# Altium integrated library Xilinx Kintex-7.IntLib: 108 symbols (part 16 of 39)
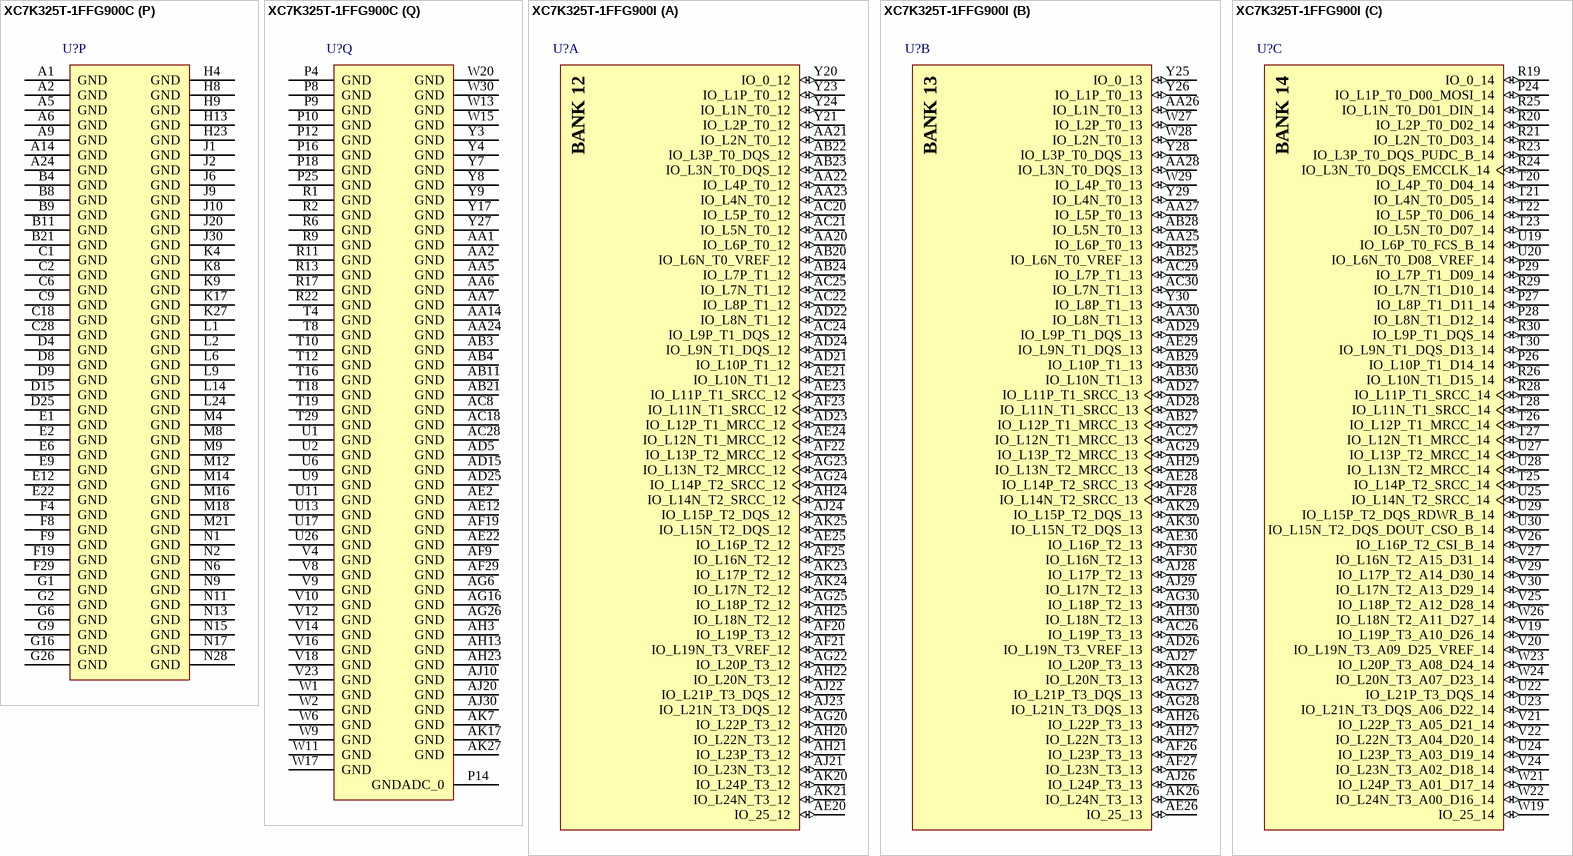
[diagram p306: symbols XC7K325T-1FFG900C to XC7K325T-1FFG900I]

## XC7K325T-1FFG900C
designator U?
Kintex-7 FPGA, 500 User I/Os, 16 GTX, 900-Ball BGA, Speed Grade 1, Commerical Grade, Pb-Free; Generic Part Number: XC7K325T; Manufacturer: Xilinx; PartNumber: XC7K325T-1FFG900C; GTX: 16; SelectIO HP: 150; SelectIO HR: 350; Speed Grade: -1; DatasheetVersion: v1.12; PackageVersion: Rev 1.1; PackageReference: FFG900; PackageDescription: Flip-Chip BGA, Body 31 x 31 mm, 1.0 mm Pitch; RoHS: Pb-Free; Mounting Technology: Surface Mount; Code_JEDEC: MS-034-AAN-1; ComponentLink1Description: Datasheet; ComponentLink1URL: http://www.xilinx.com/support/documentation/data_sheets/ds180_7Series_Overview.pdf; ComponentLink2Description: Package Specification; ComponentLink2URL: http://www.xilinx.com/support/documentation/user_guides/ug865-Zynq-7000-Pkg-Pinout.pdf
footprint FFG900 (BGA, 900-Balls, Body 31x31mm, Pitch 1mm)
part A pins: AA20 IO_L6P_T0_12 (io), AA21 IO_L2N_T0_12 (io), AA22 IO_L4P_T0_12 (io), AA23 IO_L4N_T0_12 (io), AB20 IO_L6N_T0_VREF_12 (io), AB22 IO_L3P_T0_DQS_12 (io), AB23 IO_L3N_T0_DQS_12 (io), AB24 IO_L7P_T1_12 (io), AC20 IO_L5P_T0_12 (io), AC21 IO_L5N_T0_12 (io), AC22 IO_L8P_T1_12 (io), AC24 IO_L9P_T1_DQS_12 (io), AC25 IO_L7N_T1_12 (io), AD21 IO_L10P_T1_12 (io), AD22 IO_L8N_T1_12 (io), AD23 IO_L12P_T1_MRCC_12 (io), AD24 IO_L9N_T1_DQS_12 (io), AE20 IO_25_12 (io), AE21 IO_L10N_T1_12 (io), AE23 IO_L11P_T1_SRCC_12 (io), AE24 IO_L12N_T1_MRCC_12 (io), AE25 IO_L16P_T2_12 (io), AF20 IO_L19P_T3_12 (io), AF21 IO_L19N_T3_VREF_12 (io), AF22 IO_L13P_T2_MRCC_12 (io), AF23 IO_L11N_T1_SRCC_12 (io), AF25 IO_L16N_T2_12 (io), AG20 IO_L22P_T3_12 (io), AG22 IO_L20P_T3_12 (io), AG23 IO_L13N_T2_MRCC_12 (io), AG24 IO_L14P_T2_SRCC_12 (io), AG25 IO_L18P_T2_12 (io), AH20 IO_L22N_T3_12 (io), AH21 IO_L23P_T3_12 (io), AH22 IO_L20N_T3_12 (io), AH24 IO_L14N_T2_SRCC_12 (io), AH25 IO_L18N_T2_12 (io), AJ21 IO_L23N_T3_12 (io), AJ22 IO_L21P_T3_DQS_12 (io), AJ23 IO_L21N_T3_DQS_12 (io), AJ24 IO_L15P_T2_DQS_12 (io), AK20 IO_L24P_T3_12 (io), AK21 IO_L24N_T3_12 (io), AK23 IO_L17P_T2_12 (io), AK24 IO_L17N_T2_12 (io), AK25 IO_L15N_T2_DQS_12 (io), Y20 IO_0_12 (io), Y21 IO_L2P_T0_12 (io), Y23 IO_L1P_T0_12 (io), Y24 IO_L1N_T0_12 (io)
part B pins: AA25 IO_L6P_T0_13 (io), AA26 IO_L1N_T0_13 (io), AA27 IO_L5P_T0_13 (io), AA28 IO_L3N_T0_DQS_13 (io), AA30 IO_L8N_T1_13 (io), AB25 IO_L6N_T0_VREF_13 (io), AB27 IO_L12P_T1_MRCC_13 (io), AB28 IO_L5N_T0_13 (io), AB29 IO_L10P_T1_13 (io), AB30 IO_L10N_T1_13 (io), AC26 IO_L19P_T3_13 (io), AC27 IO_L12N_T1_MRCC_13 (io), AC29 IO_L7P_T1_13 (io), AC30 IO_L7N_T1_13 (io), AD26 IO_L19N_T3_VREF_13 (io), AD27 IO_L11P_T1_SRCC_13 (io), AD28 IO_L11N_T1_SRCC_13 (io), AD29 IO_L9P_T1_DQS_13 (io), AE26 IO_25_13 (io), AE28 IO_L14P_T2_SRCC_13 (io), AE29 IO_L9N_T1_DQS_13 (io), AE30 IO_L16P_T2_13 (io), AF26 IO_L23P_T3_13 (io), AF27 IO_L23N_T3_13 (io), AF28 IO_L14N_T2_SRCC_13 (io), AF30 IO_L16N_T2_13 (io), AG27 IO_L21P_T3_DQS_13 (io), AG28 IO_L21N_T3_DQS_13 (io), AG29 IO_L13P_T2_MRCC_13 (io), AG30 IO_L18P_T2_13 (io), AH26 IO_L22P_T3_13 (io), AH27 IO_L22N_T3_13 (io), AH29 IO_L13N_T2_MRCC_13 (io), AH30 IO_L18N_T2_13 (io), AJ26 IO_L24P_T3_13 (io), AJ27 IO_L20P_T3_13 (io), AJ28 IO_L17P_T2_13 (io), AJ29 IO_L17N_T2_13 (io), AK26 IO_L24N_T3_13 (io), AK28 IO_L20N_T3_13 (io), AK29 IO_L15P_T2_DQS_13 (io), AK30 IO_L15N_T2_DQS_13 (io), W27 IO_L2P_T0_13 (io), W28 IO_L2N_T0_13 (io), W29 IO_L4P_T0_13 (io), Y25 IO_0_13 (io), Y26 IO_L1P_T0_13 (io), Y28 IO_L3P_T0_DQS_13 (io), Y29 IO_L4N_T0_13 (io), Y30 IO_L8P_T1_13 (io)
part C pins: P24 IO_L1P_T0_D00_MOSI_14 (io), P26 IO_L10P_T1_D14_14 (io), P27 IO_L8P_T1_D11_14 (io), P28 IO_L8N_T1_D12_14 (io), P29 IO_L7P_T1_D09_14 (io), R19 IO_0_14 (io), R20 IO_L2P_T0_D02_14 (io), R21 IO_L2N_T0_D03_14 (io), R23 IO_L3P_T0_DQS_PUDC_B_14 (io), R24 IO_L3N_T0_DQS_EMCCLK_14 (io), R25 IO_L1N_T0_D01_DIN_14 (io), R26 IO_L10N_T1_D15_14 (io), R28 IO_L11P_T1_SRCC_14 (io), R29 IO_L7N_T1_D10_14 (io), R30 IO_L9P_T1_DQS_14 (io), T20 IO_L4P_T0_D04_14 (io), T21 IO_L4N_T0_D05_14 (io), T22 IO_L5P_T0_D06_14 (io), T23 IO_L5N_T0_D07_14 (io), T25 IO_L14P_T2_SRCC_14 (io), T26 IO_L12P_T1_MRCC_14 (io), T27 IO_L12N_T1_MRCC_14 (io), T28 IO_L11N_T1_SRCC_14 (io), T30 IO_L9N_T1_DQS_D13_14 (io), U19 IO_L6P_T0_FCS_B_14 (io), U20 IO_L6N_T0_D08_VREF_14 (io), U22 IO_L21P_T3_DQS_14 (io), U23 IO_L21N_T3_DQS_A06_D22_14 (io), U24 IO_L23P_T3_A03_D19_14 (io), U25 IO_L14N_T2_SRCC_14 (io), U27 IO_L13P_T2_MRCC_14 (io), U28 IO_L13N_T2_MRCC_14 (io), U29 IO_L15P_T2_DQS_RDWR_B_14 (io), U30 IO_L15N_T2_DQS_DOUT_CSO_B_14 (io), V19 IO_L19P_T3_A10_D26_14 (io), V20 IO_L19N_T3_A09_D25_VREF_14 (io), V21 IO_L22P_T3_A05_D21_14 (io), V22 IO_L22N_T3_A04_D20_14 (io), V24 IO_L23N_T3_A02_D18_14 (io), V25 IO_L18P_T2_A12_D28_14 (io), V26 IO_L16P_T2_CSI_B_14 (io), V27 IO_L16N_T2_A15_D31_14 (io), V29 IO_L17P_T2_A14_D30_14 (io), V30 IO_L17N_T2_A13_D29_14 (io), W19 IO_25_14 (io), W21 IO_L24P_T3_A01_D17_14 (io), W22 IO_L24N_T3_A00_D16_14 (io), W23 IO_L20P_T3_A08_D24_14 (io), W24 IO_L20N_T3_A07_D23_14 (io), W26 IO_L18N_T2_A11_D27_14 (io)
part D pins: H29 IO_L7N_T1_AD10N_15 (io), J21 IO_L5P_T0_AD2P_15 (io), J22 IO_L5N_T0_AD2N_15 (io), J23 IO_L1P_T0_AD0P_15 (io), J24 IO_L1N_T0_AD0N_15 (io), J26 IO_L10N_T1_AD4N_15 (io), J27 IO_L8P_T1_AD3P_15 (io), J28 IO_L8N_T1_AD3N_15 (io), J29 IO_L7P_T1_AD10P_15 (io), K21 IO_L4N_T0_AD9N_15 (io), K23 IO_L3P_T0_DQS_AD1P_15 (io), K24 IO_L3N_T0_DQS_AD1N_15 (io), K25 IO_L12N_T1_MRCC_AD5N_15 (io), K26 IO_L10P_T1_AD4P_15 (io), K28 IO_L13P_T2_MRCC_15 (io), K29 IO_L13N_T2_MRCC_15 (io), K30 IO_L9N_T1_DQS_AD11N_15 (io), L20 IO_L6N_T0_VREF_15 (io), L21 IO_L4P_T0_AD9P_15 (io), L22 IO_L2P_T0_AD8P_15 (io), L23 IO_L2N_T0_AD8N_15 (io), L25 IO_L12P_T1_MRCC_AD5P_15 (io), L26 IO_L11P_T1_SRCC_AD12P_15 (io), L27 IO_L11N_T1_SRCC_AD12N_15 (io), L28 IO_L14N_T2_SRCC_15 (io), L30 IO_L9P_T1_DQS_AD11P_15 (io), M19 IO_0_15 (io), M20 IO_L6P_T0_15 (io), M22 IO_L24P_T3_RS1_15 (io), M23 IO_L24N_T3_RS0_15 (io), M24 IO_L23P_T3_FOE_B_15 (io), M25 IO_L23N_T3_FWE_B_15 (io), M27 IO_L16N_T2_A27_15 (io), M28 IO_L14P_T2_SRCC_15 (io), M29 IO_L15P_T2_DQS_15 (io), M30 IO_L15N_T2_DQS_ADV_B_15 (io), N19 IO_L19P_T3_A22_15 (io), N20 IO_L19N_T3_A21_VREF_15 (io), N21 IO_L20P_T3_A20_15 (io), N22 IO_L20N_T3_A19_15 (io), N24 IO_L21N_T3_DQS_A18_15 (io), N25 IO_L18P_T2_A24_15 (io), N26 IO_L18N_T2_A23_15 (io), N27 IO_L16P_T2_A28_15 (io), N29 IO_L17P_T2_A26_15 (io), N30 IO_L17N_T2_A25_15 (io), P19 IO_25_15 (io), P21 IO_L22P_T3_A17_15 (io), P22 IO_L22N_T3_A16_15 (io), P23 IO_L21P_T3_DQS_15 (io)
part E pins: A23 IO_L1N_T0_16 (io), A25 IO_L10P_T1_16 (io), A26 IO_L10N_T1_16 (io), A27 IO_L7N_T1_16 (io), A28 IO_L9N_T1_DQS_16 (io), A30 IO_L17N_T2_16 (io), B23 IO_L1P_T0_16 (io), B24 IO_L8N_T1_16 (io), B25 IO_L12N_T1_MRCC_16 (io), B27 IO_L7P_T1_16 (io), B28 IO_L9P_T1_DQS_16 (io), B29 IO_L15N_T2_DQS_16 (io), B30 IO_L17P_T2_16 (io), C24 IO_L8P_T1_16 (io), C25 IO_L12P_T1_MRCC_16 (io), C26 IO_L11N_T1_SRCC_16 (io), C27 IO_L13N_T2_MRCC_16 (io), C29 IO_L15P_T2_DQS_16 (io), C30 IO_L16N_T2_16 (io), D23 IO_L2N_T0_16 (io), D24 IO_L4N_T0_16 (io), D26 IO_L11P_T1_SRCC_16 (io), D27 IO_L13P_T2_MRCC_16 (io), D28 IO_L14N_T2_SRCC_16 (io), D29 IO_L16P_T2_16 (io), E23 IO_L2P_T0_16 (io), E24 IO_L4P_T0_16 (io), E25 IO_L3N_T0_DQS_16 (io), E26 IO_L5N_T0_16 (io), E28 IO_L14P_T2_SRCC_16 (io), E29 IO_L18P_T2_16 (io), E30 IO_L18N_T2_16 (io), F23 IO_0_16 (io), F25 IO_L3P_T0_DQS_16 (io), F26 IO_L5P_T0_16 (io), F27 IO_L21N_T3_DQS_16 (io), F28 IO_L20N_T3_16 (io), F30 IO_L22N_T3_16 (io), G23 IO_L6P_T0_16 (io), G24 IO_L6N_T0_VREF_16 (io), G25 IO_25_16 (io), G27 IO_L21P_T3_DQS_16 (io), G28 IO_L20P_T3_16 (io), G29 IO_L22P_T3_16 (io), G30 IO_L24N_T3_16 (io), H24 IO_L19P_T3_16 (io), H25 IO_L19N_T3_VREF_16 (io), H26 IO_L23P_T3_16 (io), H27 IO_L23N_T3_16 (io), H30 IO_L24P_T3_16 (io)
part F pins: A16 IO_L20P_T3_17 (io), A17 IO_L20N_T3_17 (io), A18 IO_L22N_T3_17 (io), A20 IO_L21P_T3_DQS_17 (io), A21 IO_L21N_T3_DQS_17 (io), A22 IO_L23N_T3_17 (io), B17 IO_L17N_T2_17 (io), B18 IO_L22P_T3_17 (io), B19 IO_L24N_T3_17 (io), B20 IO_L19N_T3_VREF_17 (io), B22 IO_L23P_T3_17 (io), C16 IO_L15N_T2_DQS_17 (io), C17 IO_L17P_T2_17 (io), C19 IO_L24P_T3_17 (io), C20 IO_L19P_T3_17 (io), C21 IO_L8N_T1_17 (io), C22 IO_L10N_T1_17 (io), D16 IO_L15P_T2_DQS_17 (io), D17 IO_L13P_T2_MRCC_17 (io), D18 IO_L13N_T2_MRCC_17 (io), D19 IO_L14N_T2_SRCC_17 (io), D21 IO_L8P_T1_17 (io), D22 IO_L10P_T1_17 (io), E18 IO_25_17 (io), E19 IO_L14P_T2_SRCC_17 (io), E20 IO_L12N_T1_MRCC_17 (io), E21 IO_L11N_T1_SRCC_17 (io), F17 IO_L18N_T2_17 (io), F18 IO_L16N_T2_17 (io), F20 IO_L12P_T1_MRCC_17 (io), F21 IO_L11P_T1_SRCC_17 (io), F22 IO_L9N_T1_DQS_17 (io), G17 IO_L18P_T2_17 (io), G18 IO_L16P_T2_17 (io), G19 IO_0_17 (io), G20 IO_L2N_T0_17 (io), G22 IO_L9P_T1_DQS_17 (io), H17 IO_L3N_T0_DQS_17 (io), H19 IO_L4N_T0_17 (io), H20 IO_L2P_T0_17 (io), H21 IO_L7P_T1_17 (io), H22 IO_L7N_T1_17 (io), J17 IO_L3P_T0_DQS_17 (io), J18 IO_L1N_T0_17 (io), J19 IO_L4P_T0_17 (io), K18 IO_L1P_T0_17 (io), K19 IO_L6P_T0_17 (io), K20 IO_L6N_T0_VREF_17 (io), L17 IO_L5P_T0_17 (io), L18 IO_L5N_T0_17 (io)
part G pins: A11 IO_L17P_T2_18 (io), A12 IO_L17N_T2_18 (io), A13 IO_L22N_T3_18 (io), A15 IO_L24N_T3_18 (io), B12 IO_L15N_T2_DQS_18 (io), B13 IO_L22P_T3_18 (io), B14 IO_L24P_T3_18 (io), B15 IO_L23N_T3_18 (io), C11 IO_L18N_T2_18 (io), C12 IO_L15P_T2_DQS_18 (io), C14 IO_L21N_T3_DQS_18 (io), C15 IO_L23P_T3_18 (io), D11 IO_L18P_T2_18 (io), D12 IO_L13P_T2_MRCC_18 (io), D13 IO_L13N_T2_MRCC_18 (io), D14 IO_L21P_T3_DQS_18 (io), E11 IO_L16N_T2_18 (io), E13 IO_L14N_T2_SRCC_18 (io), E14 IO_L20P_T3_18 (io), E15 IO_L20N_T3_18 (io), E16 IO_L19N_T3_VREF_18 (io), F11 IO_L16P_T2_18 (io), F12 IO_L14P_T2_SRCC_18 (io), F13 IO_L12N_T1_MRCC_18 (io), F15 IO_L19P_T3_18 (io), F16 IO_25_18 (io), G12 IO_0_18 (io), G13 IO_L12P_T1_MRCC_18 (io), G14 IO_L11N_T1_SRCC_18 (io), G15 IO_L7N_T1_18 (io), H11 IO_L10P_T1_18 (io), H12 IO_L10N_T1_18 (io), H14 IO_L11P_T1_SRCC_18 (io), H15 IO_L7P_T1_18 (io), H16 IO_L9N_T1_DQS_18 (io), J11 IO_L8P_T1_18 (io), J12 IO_L8N_T1_18 (io), J13 IO_L4N_T0_18 (io), J14 IO_L5N_T0_18 (io), J16 IO_L9P_T1_DQS_18 (io), K11 IO_L6N_T0_VREF_18 (io), K13 IO_L4P_T0_18 (io), K14 IO_L5P_T0_18 (io), K15 IO_L2N_T0_18 (io), K16 IO_L1N_T0_18 (io), L11 IO_L6P_T0_18 (io), L12 IO_L3P_T0_DQS_18 (io), L13 IO_L3N_T0_DQS_18 (io), L15 IO_L2P_T0_18 (io), L16 IO_L1P_T0_18 (io)
part H pins: AA15 IO_L20P_T3_32 (io), AA16 IO_L23N_T3_32 (io), AA17 IO_L23P_T3_32 (io), AA18 IO_L16P_T2_32 (io), AB14 IO_25_VRP_32 (io), AB15 IO_L20N_T3_32 (io), AB17 IO_L18P_T2_32 (io), AB18 IO_L16N_T2_32 (io), AB19 IO_L17P_T2_32 (io), AC14 IO_L22P_T3_32 (io), AC15 IO_L21N_T3_DQS_32 (io), AC16 IO_L21P_T3_DQS_32 (io), AC17 IO_L18N_T2_32 (io), AC19 IO_L17N_T2_32 (io), AD14 IO_L22N_T3_32 (io), AD16 IO_L14N_T2_SRCC_32 (io), AD17 IO_L14P_T2_SRCC_32 (io), AD18 IO_L13P_T2_MRCC_32 (io), AD19 IO_L10P_T1_32 (io), AE14 IO_L19N_T3_VREF_32 (io), AE15 IO_L19P_T3_32 (io), AE16 IO_L6P_T0_32 (io), AE18 IO_L13N_T2_MRCC_32 (io), AE19 IO_L10N_T1_32 (io), AF15 IO_L4P_T0_32 (io), AF16 IO_L6N_T0_VREF_32 (io), AF17 IO_L12P_T1_MRCC_32 (io), AF18 IO_L11P_T1_SRCC_32 (io), AG14 IO_L4N_T0_32 (io), AG15 IO_L2P_T0_32 (io), AG17 IO_L12N_T1_MRCC_32 (io), AG18 IO_L11N_T1_SRCC_32 (io), AG19 IO_L8P_T1_32 (io), AH15 IO_L2N_T0_32 (io), AH16 IO_L3P_T0_DQS_32 (io), AH17 IO_L5P_T0_32 (io), AH19 IO_L8N_T1_32 (io), AJ16 IO_L3N_T0_DQS_32 (io), AJ17 IO_L5N_T0_32 (io), AJ18 IO_L9P_T1_DQS_32 (io), AJ19 IO_L7P_T1_32 (io), AK15 IO_L1N_T0_32 (io), AK16 IO_L1P_T0_32 (io), AK18 IO_L9N_T1_DQS_32 (io), AK19 IO_L7N_T1_32 (io), Y14 IO_0_VRN_32 (io), Y15 IO_L24N_T3_32 (io), Y16 IO_L24P_T3_32 (io), Y18 IO_L15N_T2_DQS_32 (io), Y19 IO_L15P_T2_DQS_32 (io)
part I pins: AA8 IO_L2P_T0_33 (io), AA10 IO_L5N_T0_33 (io), AA11 IO_L5P_T0_33 (io), AA12 IO_L1P_T0_33 (io), AA13 IO_L6P_T0_33 (io), AB8 IO_L2N_T0_33 (io), AB9 IO_L3P_T0_DQS_33 (io), AB10 IO_L7P_T1_33 (io), AB12 IO_L1N_T0_33 (io), AB13 IO_L6N_T0_VREF_33 (io), AC9 IO_L3N_T0_DQS_33 (io), AC10 IO_L7N_T1_33 (io), AC11 IO_L9N_T1_DQS_33 (io), AC12 IO_L9P_T1_DQS_33 (io), AD8 IO_L8P_T1_33 (io), AD9 IO_L10P_T1_33 (io), AD11 IO_L12N_T1_MRCC_33 (io), AD12 IO_L12P_T1_MRCC_33 (io), AD13 IO_25_VRP_33 (io), AE8 IO_L8N_T1_33 (io), AE9 IO_L10N_T1_33 (io), AE10 IO_L14P_T2_SRCC_33 (io), AE11 IO_L11P_T1_SRCC_33 (io), AE13 IO_L19P_T3_33 (io), AF10 IO_L14N_T2_SRCC_33 (io), AF11 IO_L11N_T1_SRCC_33 (io), AF12 IO_L23P_T3_33 (io), AF13 IO_L19N_T3_VREF_33 (io), AG9 IO_L16P_T2_33 (io), AG10 IO_L13P_T2_MRCC_33 (io), AG12 IO_L23N_T3_33 (io), AG13 IO_L24P_T3_33 (io), AH9 IO_L16N_T2_33 (io), AH10 IO_L13N_T2_MRCC_33 (io), AH11 IO_L18P_T2_33 (io), AH12 IO_L24N_T3_33 (io), AH14 IO_L21P_T3_DQS_33 (io), AJ9 IO_L15P_T2_DQS_33 (io), AJ11 IO_L18N_T2_33 (io), AJ12 IO_L22N_T3_33 (io), AJ13 IO_L22P_T3_33 (io), AJ14 IO_L21N_T3_DQS_33 (io), AK9 IO_L15N_T2_DQS_33 (io), AK10 IO_L17N_T2_33 (io), AK11 IO_L17P_T2_33 (io), AK13 IO_L20N_T3_33 (io), AK14 IO_L20P_T3_33 (io), Y10 IO_L4N_T0_33 (io), Y11 IO_L4P_T0_33 (io), Y13 IO_0_VRN_33 (io)
part J pins: AB7 IO_25_VRP_34 (io), AC1 IO_L2N_T0_34 (io), AC2 IO_L2P_T0_34 (io), AC4 IO_L4N_T0_34 (io), AC5 IO_L4P_T0_34 (io), AC6 IO_0_VRN_34 (io), AC7 IO_L6P_T0_34 (io), AD1 IO_L3N_T0_DQS_34 (io), AD2 IO_L3P_T0_DQS_34 (io), AD3 IO_L1N_T0_34 (io), AD4 IO_L1P_T0_34 (io), AD6 IO_L5P_T0_34 (io), AD7 IO_L6N_T0_VREF_34 (io), AE1 IO_L8P_T1_34 (io), AE3 IO_L10N_T1_34 (io), AE4 IO_L10P_T1_34 (io), AE5 IO_L11P_T1_SRCC_34 (io), AE6 IO_L5N_T0_34 (io), AF1 IO_L8N_T1_34 (io), AF2 IO_L7N_T1_34 (io), AF3 IO_L7P_T1_34 (io), AF5 IO_L11N_T1_SRCC_34 (io), AF6 IO_L12P_T1_MRCC_34 (io), AF7 IO_L20P_T3_34 (io), AF8 IO_L19P_T3_34 (io), AG2 IO_L15P_T2_DQS_34 (io), AG3 IO_L9N_T1_DQS_34 (io), AG4 IO_L9P_T1_DQS_34 (io), AG5 IO_L12N_T1_MRCC_34 (io), AG7 IO_L20N_T3_34 (io), AG8 IO_L19N_T3_VREF_34 (io), AH1 IO_L15N_T2_DQS_34 (io), AH2 IO_L16P_T2_34 (io), AH4 IO_L13P_T2_MRCC_34 (io), AH5 IO_L14N_T2_SRCC_34 (io), AH6 IO_L14P_T2_SRCC_34 (io), AH7 IO_L21P_T3_DQS_34 (io), AJ1 IO_L17P_T2_34 (io), AJ2 IO_L16N_T2_34 (io), AJ3 IO_L18P_T2_34 (io), AJ4 IO_L13N_T2_MRCC_34 (io), AJ6 IO_L22P_T3_34 (io), AJ7 IO_L21N_T3_DQS_34 (io), AJ8 IO_L23P_T3_34 (io), AK1 IO_L17N_T2_34 (io), AK3 IO_L18N_T2_34 (io), AK4 IO_L24N_T3_34 (io), AK5 IO_L24P_T3_34 (io), AK6 IO_L22N_T3_34 (io), AK8 IO_L23N_T3_34 (io)
part K pins: A10 INIT_B_0 (io), AB1 M2_0 (in), AB2 M1_0 (in), AB5 M0_0 (in), B10 CCLK_0 (io), E10 TCK_0 (in), F10 TMS_0 (in), G10 TDO_0 (out), H10 TDI_0 (in), K10 PROGRAM_B_0 (in), L10 CFGBVS_0 (in), M10 DONE_0 (io), R14 VREFN_0 (in), R15 VP_0 (in), T14 VN_0 (in), T15 VREFP_0 (in), U14 DXN_0 (in), U15 DXP_0 (in)
part L pins: A3 MGTXTXN3_118 (out), A4 MGTXTXP3_118 (out), A7 MGTXRXN3_118 (in), A8 MGTXRXP3_118 (in), AA3 MGTXRXN0_115 (in), AA4 MGTXRXP0_115 (in), B1 MGTXTXN2_118 (out), B2 MGTXTXP2_118 (out), B5 MGTXRXN2_118 (in), B6 MGTXRXP2_118 (in), C3 MGTXTXN1_118 (out), C4 MGTXTXP1_118 (out), C7 MGTREFCLK0N_118 (in), C8 MGTREFCLK0P_118 (in), D1 MGTXTXN0_118 (out), D2 MGTXTXP0_118 (out), D5 MGTXRXN1_118 (in), D6 MGTXRXP1_118 (in), E3 MGTXRXN0_118 (in), E4 MGTXRXP0_118 (in), E7 MGTREFCLK1N_118 (in), E8 MGTREFCLK1P_118 (in), F1 MGTXTXN3_117 (out), F2 MGTXTXP3_117 (out), F5 MGTXRXN3_117 (in), F6 MGTXRXP3_117 (in), G3 MGTXRXN2_117 (in), G4 MGTXRXP2_117 (in), G7 MGTREFCLK0N_117 (in), G8 MGTREFCLK0P_117 (in), H1 MGTXTXN2_117 (out), H2 MGTXTXP2_117 (out), H5 MGTXRXN1_117 (in), H6 MGTXRXP1_117 (in), J3 MGTXTXN1_117 (out), J4 MGTXTXP1_117 (in), J7 MGTREFCLK1N_117 (in), J8 MGTREFCLK1P_117 (in), K1 MGTXTXN0_117 (out), K2 MGTXTXP0_117 (out), K5 MGTXRXN0_117 (in), K6 MGTXRXP0_117 (in), L3 MGTXTXN3_116 (out), L4 MGTXTXP3_116 (out), L7 MGTREFCLK0N_116 (in), L8 MGTREFCLK0P_116 (in), M1 MGTXTXN2_116 (out), M2 MGTXTXP2_116 (out), M5 MGTXRXN3_116 (in), M6 MGTXRXP3_116 (in), N3 MGTXTXN1_116 (out), N4 MGTXTXP1_116 (out), N7 MGTREFCLK1N_116 (in), N8 MGTREFCLK1P_116 (in), P1 MGTXTXN0_116 (out), P2 MGTXTXP0_116 (out), P5 MGTXRXN2_116 (in), P6 MGTXRXP2_116 (in), R3 MGTXRXN1_116 (in), R4 MGTXRXP1_116 (in), R7 MGTREFCLK0N_115 (in), R8 MGTREFCLK0P_115 (in), T1 MGTXTXN3_115 (out), T2 MGTXTXP3_115 (out), T5 MGTXRXN0_116 (in), T6 MGTXRXP0_116 (in), U3 MGTXTXN2_115 (out), U4 MGTXTXP2_115 (out), U7 MGTREFCLK1N_115 (in), U8 MGTREFCLK1P_115 (in), V1 MGTXTXN1_115 (out), V2 MGTXTXP1_115 (out), V5 MGTXRXN3_115 (in), V6 MGTXRXP3_115 (in), W3 MGTXRXN2_115 (in), W4 MGTXRXP2_115 (in), W7 MGTAVTTRCAL_115, W8 MGTRREF_115 (in), Y1 MGTXTXN0_115 (out), Y2 MGTXTXP0_115 (out), Y5 MGTXRXN1_115 (in), Y6 MGTXRXP1_115 (in)
part M pins: B3 MGTAVTT (power), B7 MGTAVCC (power), C5 MGTAVTT (power), D3 MGTAVTT (power), D7 MGTAVCC (power), E5 MGTAVTT (power), F3 MGTAVTT (power), F7 MGTAVCC (power), G5 MGTAVTT (power), H3 MGTAVTT (power), H7 MGTAVCC (power), J5 MGTAVTT (power), K3 MGTAVTT (power), K7 MGTAVCC (power), L5 MGTAVTT (power), M3 MGTAVTT (power), M7 MGTAVCC (power), N5 MGTAVTT (power), P3 MGTAVTT (power), P7 MGTAVCC (power), R5 MGTAVTT (power), T3 MGTAVTT (power), T7 MGTVCCAUX (power), U5 MGTAVTT (power), V3 MGTAVTT (power), V7 MGTVCCAUX (power), W5 MGTAVTT (power)
part N pins: A19 VCCO_17 (power), A29 VCCO_16 (power), AA9 VCCO_33 (power), AA19 VCCO_32 (power), AA29 VCCO_13 (power), AB6 VCCO_0 (power), AB16 VCCO_32 (power), AB26 VCCO_13 (power), AC3 VCCO_34 (power), AC13 VCCO_33 (power), AC23 VCCO_12 (power), AD10 VCCO_33 (power), AD20 VCCO_12 (power), AD30 VCCO_13 (power), AE7 VCCO_34 (power), AE17 VCCO_32 (power), AE27 VCCO_13 (power), AF4 VCCO_34 (power), AF14 VCCO_32 (power), AF24 VCCO_12 (power), AG1 VCCO_34 (power), AG11 VCCO_33 (power), AG21 VCCO_12 (power), AH8 VCCO_34 (power), AH18 VCCO_32 (power), AH28 VCCO_13 (power), AJ5 VCCO_34 (power), AJ15 VCCO_32 (power), AJ25 VCCO_13 (power), AK2 VCCO_34 (power), AK12 VCCO_33 (power), AK22 VCCO_12 (power), B16 VCCO_17 (power), B26 VCCO_16 (power), C13 VCCO_18 (power), C23 VCCO_16 (power), D10 VCCO_18 (power), D20 VCCO_17 (power), D30 VCCO_16 (power), E17 VCCO_17 (power), E27 VCCO_16 (power), F14 VCCO_18 (power), F24 VCCO_16 (power), G11 VCCO_18 (power), G21 VCCO_17 (power), H18 VCCO_17 (power), H28 VCCO_16 (power), J15 VCCO_18 (power), J25 VCCO_15 (power), K12 VCCO_18 (power), K22 VCCO_15 (power), L19 VCCO_17 (power), L29 VCCO_15 (power), M26 VCCO_15 (power), N23 VCCO_15 (power), P20 VCCO_15 (power), P30 VCCO_14 (power), R27 VCCO_14 (power), T9 VCCO_0 (power), T24 VCCO_14 (power), U21 VCCO_14 (power), V28 VCCO_14 (power), W25 VCCO_14 (power), Y12 VCCO_33 (power), Y22 VCCO_12 (power)
part O pins: C10 VCCBATT_0 (power), M11 VCCINT (power), M13 VCCINT (power), M15 VCCINT (power), M17 VCCINT (power), N10 VCCINT (power), N12 VCCINT (power), N14 VCCINT (power), N16 VCCBRAM (power), N18 VCCINT (power), P11 VCCINT (power), P13 VCCAUX (power), P15 VCCADC_0 (power), P17 VCCINT (power), R10 VCCINT (power), R12 VCCINT (power), R16 VCCBRAM (power), R18 VCCINT (power), T11 VCCINT (power), T13 VCCAUX (power), T17 VCCINT (power), U10 VCCINT (power), U12 VCCINT (power), U16 VCCBRAM (power), U18 VCCINT (power), V11 VCCAUX_IO_G0 (power), V13 VCCAUX (power), V15 VCCAUX (power), V17 VCCINT (power), W10 VCCAUX_IO_G0 (power), W12 VCCAUX_IO_G0 (power), W14 VCCAUX (power), W16 VCCBRAM (power), W18 VCCINT (power)
part P pins: A1 GND (power), A2 GND (power), A5 GND (power), A6 GND (power), A9 GND (power), A14 GND (power), A24 GND (power), B4 GND (power), B8 GND (power), B9 GND (power), B11 GND (power), B21 GND (power), C1 GND (power), C2 GND (power), C6 GND (power), C9 GND (power), C18 GND (power), C28 GND (power), D4 GND (power), D8 GND (power), D9 GND (power), D15 GND (power), D25 GND (power), E1 GND (power), E2 GND (power), E6 GND (power), E9 GND (power), E12 GND (power), E22 GND (power), F4 GND (power), F8 GND (power), F9 GND (power), F19 GND (power), F29 GND (power), G1 GND (power), G2 GND (power), G6 GND (power), G9 GND (power), G16 GND (power), G26 GND (power), H4 GND (power), H8 GND (power), H9 GND (power), H13 GND (power), H23 GND (power), J1 GND (power), J2 GND (power), J6 GND (power), J9 GND (power), J10 GND (power), J20 GND (power), J30 GND (power), K4 GND (power), K8 GND (power), K9 GND (power), K17 GND (power), K27 GND (power), L1 GND (power), L2 GND (power), L6 GND (power), L9 GND (power), L14 GND (power), L24 GND (power), M4 GND (power), M8 GND (power), M9 GND (power), M12 GND (power), M14 GND (power), M16 GND (power), M18 GND (power), M21 GND (power), N1 GND (power), N2 GND (power), N6 GND (power), N9 GND (power), N11 GND (power), N13 GND (power), N15 GND (power), N17 GND (power), N28 GND (power)
part Q pins: AA1 GND (power), AA2 GND (power), AA5 GND (power), AA6 GND (power), AA7 GND (power), AA14 GND (power), AA24 GND (power), AB3 GND (power), AB4 GND (power), AB11 GND (power), AB21 GND (power), AC8 GND (power), AC18 GND (power), AC28 GND (power), AD5 GND (power), AD15 GND (power), AD25 GND (power), AE2 GND (power), AE12 GND (power), AE22 GND (power), AF9 GND (power), AF19 GND (power), AF29 GND (power), AG6 GND (power), AG16 GND (power), AG26 GND (power), AH3 GND (power), AH13 GND (power), AH23 GND (power), AJ10 GND (power), AJ20 GND (power), AJ30 GND (power), AK7 GND (power), AK17 GND (power), AK27 GND (power), P4 GND (power), P8 GND (power), P9 GND (power), P10 GND (power), P12 GND (power), P14 GNDADC_0 (power), P16 GND (power), P18 GND (power), P25 GND (power), R1 GND (power), R2 GND (power), R6 GND (power), R9 GND (power), R11 GND (power), R13 GND (power), R17 GND (power), R22 GND (power), T4 GND (power), T8 GND (power), T10 GND (power), T12 GND (power), T16 GND (power), T18 GND (power), T19 GND (power), T29 GND (power), U1 GND (power), U2 GND (power), U6 GND (power), U9 GND (power), U11 GND (power), U13 GND (power), U17 GND (power), U26 GND (power), V4 GND (power), V8 GND (power), V9 GND (power), V10 GND (power), V12 GND (power), V14 GND (power), V16 GND (power), V18 GND (power), V23 GND (power), W1 GND (power), W2 GND (power), W6 GND (power), W9 GND (power), W11 GND (power), W13 GND (power), W15 GND (power), W17 GND (power), W20 GND (power), W30 GND (power), Y3 GND (power), Y4 GND (power), Y7 GND (power), Y8 GND (power), Y9 GND (power), Y17 GND (power), Y27 GND (power)
part A text: BANK 12
part B text: BANK 13
part C text: BANK 14
part D text: BANK 15
part E text: BANK 16
part F text: BANK 17
part G text: BANK 18
part H text: BANK 32
part I text: BANK 33
part J text: BANK 34

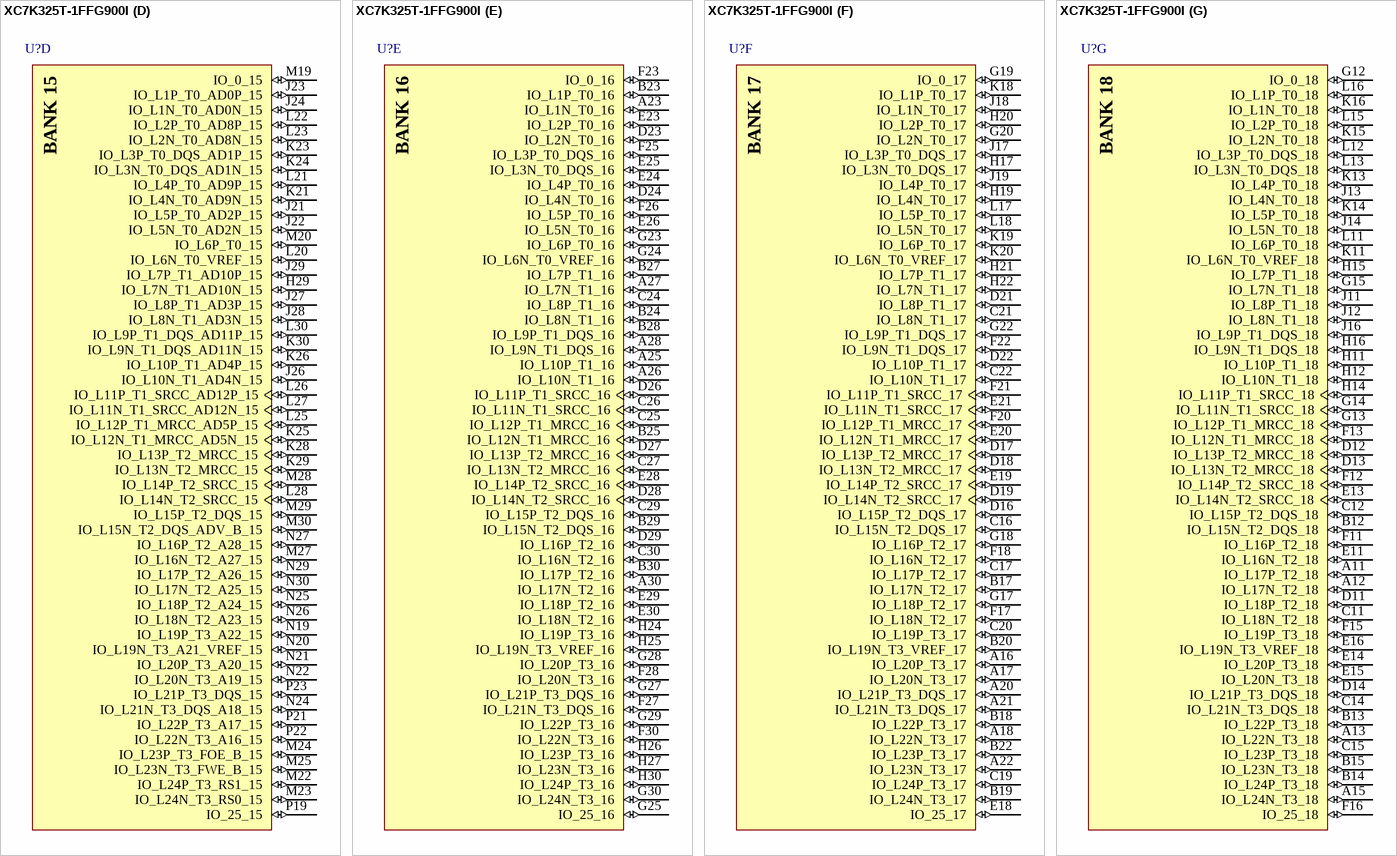
[diagram p85: symbol XC7K325T-1FFG900I]

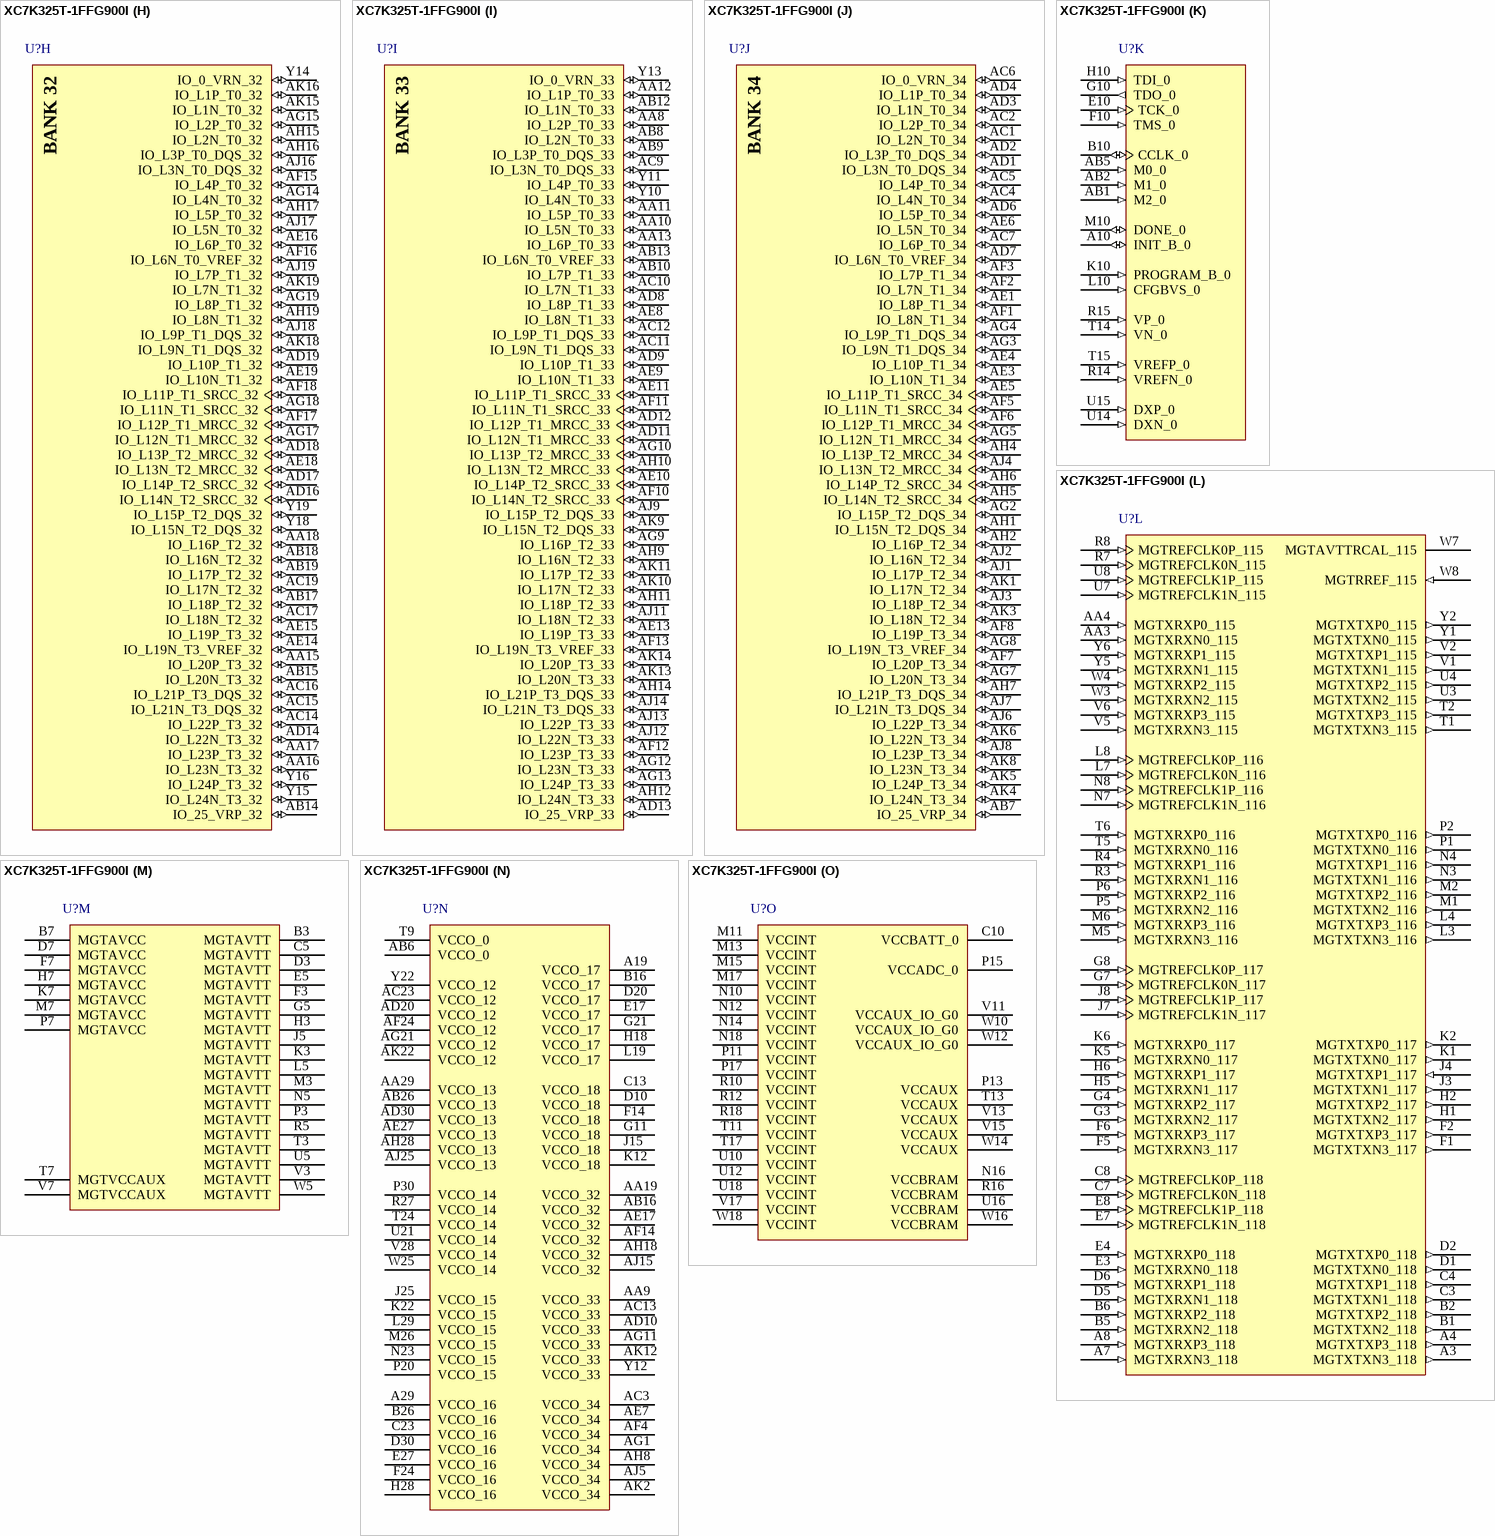
[diagram p86: symbol XC7K325T-1FFG900I]

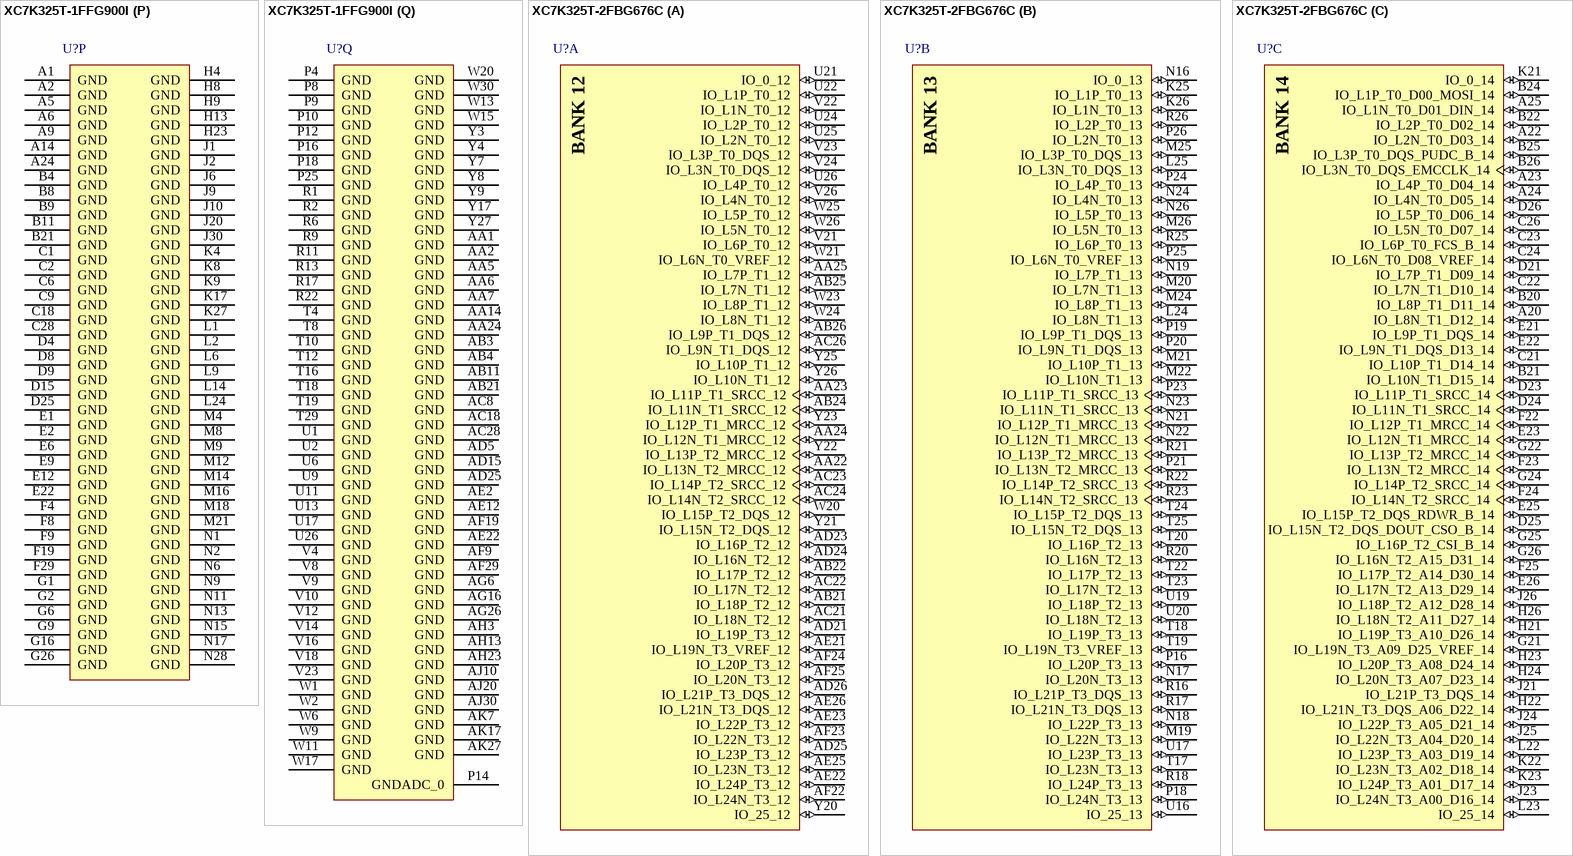
[diagram p87: symbols XC7K325T-1FFG900I to XC7K325T-2FBG676C]

## XC7K325T-1FFG900I
designator U?
Kintex-7 FPGA, 500 User I/Os, 16 GTX, 900-Ball BGA, Speed Grade 1, Industrial Grade, Pb-Free; Generic Part Number: XC7K325T; Manufacturer: Xilinx; PartNumber: XC7K325T-1FFG900I; GTX: 16; SelectIO HP: 150; SelectIO HR: 350; Speed Grade: -1; DatasheetVersion: v1.12; PackageVersion: Rev 1.1; PackageReference: FFG900; PackageDescription: Flip-Chip BGA, Body 31 x 31 mm, 1.0 mm Pitch; RoHS: Pb-Free; Mounting Technology: Surface Mount; Code_JEDEC: MS-034-AAN-1; ComponentLink1Description: Datasheet; ComponentLink1URL: http://www.xilinx.com/support/documentation/data_sheets/ds180_7Series_Overview.pdf; ComponentLink2Description: Package Specification; ComponentLink2URL: http://www.xilinx.com/support/documentation/user_guides/ug865-Zynq-7000-Pkg-Pinout.pdf
footprint FFG900 (BGA, 900-Balls, Body 31x31mm, Pitch 1mm)
part A pins: AA20 IO_L6P_T0_12 (io), AA21 IO_L2N_T0_12 (io), AA22 IO_L4P_T0_12 (io), AA23 IO_L4N_T0_12 (io), AB20 IO_L6N_T0_VREF_12 (io), AB22 IO_L3P_T0_DQS_12 (io), AB23 IO_L3N_T0_DQS_12 (io), AB24 IO_L7P_T1_12 (io), AC20 IO_L5P_T0_12 (io), AC21 IO_L5N_T0_12 (io), AC22 IO_L8P_T1_12 (io), AC24 IO_L9P_T1_DQS_12 (io), AC25 IO_L7N_T1_12 (io), AD21 IO_L10P_T1_12 (io), AD22 IO_L8N_T1_12 (io), AD23 IO_L12P_T1_MRCC_12 (io), AD24 IO_L9N_T1_DQS_12 (io), AE20 IO_25_12 (io), AE21 IO_L10N_T1_12 (io), AE23 IO_L11P_T1_SRCC_12 (io), AE24 IO_L12N_T1_MRCC_12 (io), AE25 IO_L16P_T2_12 (io), AF20 IO_L19P_T3_12 (io), AF21 IO_L19N_T3_VREF_12 (io), AF22 IO_L13P_T2_MRCC_12 (io), AF23 IO_L11N_T1_SRCC_12 (io), AF25 IO_L16N_T2_12 (io), AG20 IO_L22P_T3_12 (io), AG22 IO_L20P_T3_12 (io), AG23 IO_L13N_T2_MRCC_12 (io), AG24 IO_L14P_T2_SRCC_12 (io), AG25 IO_L18P_T2_12 (io), AH20 IO_L22N_T3_12 (io), AH21 IO_L23P_T3_12 (io), AH22 IO_L20N_T3_12 (io), AH24 IO_L14N_T2_SRCC_12 (io), AH25 IO_L18N_T2_12 (io), AJ21 IO_L23N_T3_12 (io), AJ22 IO_L21P_T3_DQS_12 (io), AJ23 IO_L21N_T3_DQS_12 (io), AJ24 IO_L15P_T2_DQS_12 (io), AK20 IO_L24P_T3_12 (io), AK21 IO_L24N_T3_12 (io), AK23 IO_L17P_T2_12 (io), AK24 IO_L17N_T2_12 (io), AK25 IO_L15N_T2_DQS_12 (io), Y20 IO_0_12 (io), Y21 IO_L2P_T0_12 (io), Y23 IO_L1P_T0_12 (io), Y24 IO_L1N_T0_12 (io)
part B pins: AA25 IO_L6P_T0_13 (io), AA26 IO_L1N_T0_13 (io), AA27 IO_L5P_T0_13 (io), AA28 IO_L3N_T0_DQS_13 (io), AA30 IO_L8N_T1_13 (io), AB25 IO_L6N_T0_VREF_13 (io), AB27 IO_L12P_T1_MRCC_13 (io), AB28 IO_L5N_T0_13 (io), AB29 IO_L10P_T1_13 (io), AB30 IO_L10N_T1_13 (io), AC26 IO_L19P_T3_13 (io), AC27 IO_L12N_T1_MRCC_13 (io), AC29 IO_L7P_T1_13 (io), AC30 IO_L7N_T1_13 (io), AD26 IO_L19N_T3_VREF_13 (io), AD27 IO_L11P_T1_SRCC_13 (io), AD28 IO_L11N_T1_SRCC_13 (io), AD29 IO_L9P_T1_DQS_13 (io), AE26 IO_25_13 (io), AE28 IO_L14P_T2_SRCC_13 (io), AE29 IO_L9N_T1_DQS_13 (io), AE30 IO_L16P_T2_13 (io), AF26 IO_L23P_T3_13 (io), AF27 IO_L23N_T3_13 (io), AF28 IO_L14N_T2_SRCC_13 (io), AF30 IO_L16N_T2_13 (io), AG27 IO_L21P_T3_DQS_13 (io), AG28 IO_L21N_T3_DQS_13 (io), AG29 IO_L13P_T2_MRCC_13 (io), AG30 IO_L18P_T2_13 (io), AH26 IO_L22P_T3_13 (io), AH27 IO_L22N_T3_13 (io), AH29 IO_L13N_T2_MRCC_13 (io), AH30 IO_L18N_T2_13 (io), AJ26 IO_L24P_T3_13 (io), AJ27 IO_L20P_T3_13 (io), AJ28 IO_L17P_T2_13 (io), AJ29 IO_L17N_T2_13 (io), AK26 IO_L24N_T3_13 (io), AK28 IO_L20N_T3_13 (io), AK29 IO_L15P_T2_DQS_13 (io), AK30 IO_L15N_T2_DQS_13 (io), W27 IO_L2P_T0_13 (io), W28 IO_L2N_T0_13 (io), W29 IO_L4P_T0_13 (io), Y25 IO_0_13 (io), Y26 IO_L1P_T0_13 (io), Y28 IO_L3P_T0_DQS_13 (io), Y29 IO_L4N_T0_13 (io), Y30 IO_L8P_T1_13 (io)
part C pins: P24 IO_L1P_T0_D00_MOSI_14 (io), P26 IO_L10P_T1_D14_14 (io), P27 IO_L8P_T1_D11_14 (io), P28 IO_L8N_T1_D12_14 (io), P29 IO_L7P_T1_D09_14 (io), R19 IO_0_14 (io), R20 IO_L2P_T0_D02_14 (io), R21 IO_L2N_T0_D03_14 (io), R23 IO_L3P_T0_DQS_PUDC_B_14 (io), R24 IO_L3N_T0_DQS_EMCCLK_14 (io), R25 IO_L1N_T0_D01_DIN_14 (io), R26 IO_L10N_T1_D15_14 (io), R28 IO_L11P_T1_SRCC_14 (io), R29 IO_L7N_T1_D10_14 (io), R30 IO_L9P_T1_DQS_14 (io), T20 IO_L4P_T0_D04_14 (io), T21 IO_L4N_T0_D05_14 (io), T22 IO_L5P_T0_D06_14 (io), T23 IO_L5N_T0_D07_14 (io), T25 IO_L14P_T2_SRCC_14 (io), T26 IO_L12P_T1_MRCC_14 (io), T27 IO_L12N_T1_MRCC_14 (io), T28 IO_L11N_T1_SRCC_14 (io), T30 IO_L9N_T1_DQS_D13_14 (io), U19 IO_L6P_T0_FCS_B_14 (io), U20 IO_L6N_T0_D08_VREF_14 (io), U22 IO_L21P_T3_DQS_14 (io), U23 IO_L21N_T3_DQS_A06_D22_14 (io), U24 IO_L23P_T3_A03_D19_14 (io), U25 IO_L14N_T2_SRCC_14 (io), U27 IO_L13P_T2_MRCC_14 (io), U28 IO_L13N_T2_MRCC_14 (io), U29 IO_L15P_T2_DQS_RDWR_B_14 (io), U30 IO_L15N_T2_DQS_DOUT_CSO_B_14 (io), V19 IO_L19P_T3_A10_D26_14 (io), V20 IO_L19N_T3_A09_D25_VREF_14 (io), V21 IO_L22P_T3_A05_D21_14 (io), V22 IO_L22N_T3_A04_D20_14 (io), V24 IO_L23N_T3_A02_D18_14 (io), V25 IO_L18P_T2_A12_D28_14 (io), V26 IO_L16P_T2_CSI_B_14 (io), V27 IO_L16N_T2_A15_D31_14 (io), V29 IO_L17P_T2_A14_D30_14 (io), V30 IO_L17N_T2_A13_D29_14 (io), W19 IO_25_14 (io), W21 IO_L24P_T3_A01_D17_14 (io), W22 IO_L24N_T3_A00_D16_14 (io), W23 IO_L20P_T3_A08_D24_14 (io), W24 IO_L20N_T3_A07_D23_14 (io), W26 IO_L18N_T2_A11_D27_14 (io)
part D pins: H29 IO_L7N_T1_AD10N_15 (io), J21 IO_L5P_T0_AD2P_15 (io), J22 IO_L5N_T0_AD2N_15 (io), J23 IO_L1P_T0_AD0P_15 (io), J24 IO_L1N_T0_AD0N_15 (io), J26 IO_L10N_T1_AD4N_15 (io), J27 IO_L8P_T1_AD3P_15 (io), J28 IO_L8N_T1_AD3N_15 (io), J29 IO_L7P_T1_AD10P_15 (io), K21 IO_L4N_T0_AD9N_15 (io), K23 IO_L3P_T0_DQS_AD1P_15 (io), K24 IO_L3N_T0_DQS_AD1N_15 (io), K25 IO_L12N_T1_MRCC_AD5N_15 (io), K26 IO_L10P_T1_AD4P_15 (io), K28 IO_L13P_T2_MRCC_15 (io), K29 IO_L13N_T2_MRCC_15 (io), K30 IO_L9N_T1_DQS_AD11N_15 (io), L20 IO_L6N_T0_VREF_15 (io), L21 IO_L4P_T0_AD9P_15 (io), L22 IO_L2P_T0_AD8P_15 (io), L23 IO_L2N_T0_AD8N_15 (io), L25 IO_L12P_T1_MRCC_AD5P_15 (io), L26 IO_L11P_T1_SRCC_AD12P_15 (io), L27 IO_L11N_T1_SRCC_AD12N_15 (io), L28 IO_L14N_T2_SRCC_15 (io), L30 IO_L9P_T1_DQS_AD11P_15 (io), M19 IO_0_15 (io), M20 IO_L6P_T0_15 (io), M22 IO_L24P_T3_RS1_15 (io), M23 IO_L24N_T3_RS0_15 (io), M24 IO_L23P_T3_FOE_B_15 (io), M25 IO_L23N_T3_FWE_B_15 (io), M27 IO_L16N_T2_A27_15 (io), M28 IO_L14P_T2_SRCC_15 (io), M29 IO_L15P_T2_DQS_15 (io), M30 IO_L15N_T2_DQS_ADV_B_15 (io), N19 IO_L19P_T3_A22_15 (io), N20 IO_L19N_T3_A21_VREF_15 (io), N21 IO_L20P_T3_A20_15 (io), N22 IO_L20N_T3_A19_15 (io), N24 IO_L21N_T3_DQS_A18_15 (io), N25 IO_L18P_T2_A24_15 (io), N26 IO_L18N_T2_A23_15 (io), N27 IO_L16P_T2_A28_15 (io), N29 IO_L17P_T2_A26_15 (io), N30 IO_L17N_T2_A25_15 (io), P19 IO_25_15 (io), P21 IO_L22P_T3_A17_15 (io), P22 IO_L22N_T3_A16_15 (io), P23 IO_L21P_T3_DQS_15 (io)
part E pins: A23 IO_L1N_T0_16 (io), A25 IO_L10P_T1_16 (io), A26 IO_L10N_T1_16 (io), A27 IO_L7N_T1_16 (io), A28 IO_L9N_T1_DQS_16 (io), A30 IO_L17N_T2_16 (io), B23 IO_L1P_T0_16 (io), B24 IO_L8N_T1_16 (io), B25 IO_L12N_T1_MRCC_16 (io), B27 IO_L7P_T1_16 (io), B28 IO_L9P_T1_DQS_16 (io), B29 IO_L15N_T2_DQS_16 (io), B30 IO_L17P_T2_16 (io), C24 IO_L8P_T1_16 (io), C25 IO_L12P_T1_MRCC_16 (io), C26 IO_L11N_T1_SRCC_16 (io), C27 IO_L13N_T2_MRCC_16 (io), C29 IO_L15P_T2_DQS_16 (io), C30 IO_L16N_T2_16 (io), D23 IO_L2N_T0_16 (io), D24 IO_L4N_T0_16 (io), D26 IO_L11P_T1_SRCC_16 (io), D27 IO_L13P_T2_MRCC_16 (io), D28 IO_L14N_T2_SRCC_16 (io), D29 IO_L16P_T2_16 (io), E23 IO_L2P_T0_16 (io), E24 IO_L4P_T0_16 (io), E25 IO_L3N_T0_DQS_16 (io), E26 IO_L5N_T0_16 (io), E28 IO_L14P_T2_SRCC_16 (io), E29 IO_L18P_T2_16 (io), E30 IO_L18N_T2_16 (io), F23 IO_0_16 (io), F25 IO_L3P_T0_DQS_16 (io), F26 IO_L5P_T0_16 (io), F27 IO_L21N_T3_DQS_16 (io), F28 IO_L20N_T3_16 (io), F30 IO_L22N_T3_16 (io), G23 IO_L6P_T0_16 (io), G24 IO_L6N_T0_VREF_16 (io), G25 IO_25_16 (io), G27 IO_L21P_T3_DQS_16 (io), G28 IO_L20P_T3_16 (io), G29 IO_L22P_T3_16 (io), G30 IO_L24N_T3_16 (io), H24 IO_L19P_T3_16 (io), H25 IO_L19N_T3_VREF_16 (io), H26 IO_L23P_T3_16 (io), H27 IO_L23N_T3_16 (io), H30 IO_L24P_T3_16 (io)
part F pins: A16 IO_L20P_T3_17 (io), A17 IO_L20N_T3_17 (io), A18 IO_L22N_T3_17 (io), A20 IO_L21P_T3_DQS_17 (io), A21 IO_L21N_T3_DQS_17 (io), A22 IO_L23N_T3_17 (io), B17 IO_L17N_T2_17 (io), B18 IO_L22P_T3_17 (io), B19 IO_L24N_T3_17 (io), B20 IO_L19N_T3_VREF_17 (io), B22 IO_L23P_T3_17 (io), C16 IO_L15N_T2_DQS_17 (io), C17 IO_L17P_T2_17 (io), C19 IO_L24P_T3_17 (io), C20 IO_L19P_T3_17 (io), C21 IO_L8N_T1_17 (io), C22 IO_L10N_T1_17 (io), D16 IO_L15P_T2_DQS_17 (io), D17 IO_L13P_T2_MRCC_17 (io), D18 IO_L13N_T2_MRCC_17 (io), D19 IO_L14N_T2_SRCC_17 (io), D21 IO_L8P_T1_17 (io), D22 IO_L10P_T1_17 (io), E18 IO_25_17 (io), E19 IO_L14P_T2_SRCC_17 (io), E20 IO_L12N_T1_MRCC_17 (io), E21 IO_L11N_T1_SRCC_17 (io), F17 IO_L18N_T2_17 (io), F18 IO_L16N_T2_17 (io), F20 IO_L12P_T1_MRCC_17 (io), F21 IO_L11P_T1_SRCC_17 (io), F22 IO_L9N_T1_DQS_17 (io), G17 IO_L18P_T2_17 (io), G18 IO_L16P_T2_17 (io), G19 IO_0_17 (io), G20 IO_L2N_T0_17 (io), G22 IO_L9P_T1_DQS_17 (io), H17 IO_L3N_T0_DQS_17 (io), H19 IO_L4N_T0_17 (io), H20 IO_L2P_T0_17 (io), H21 IO_L7P_T1_17 (io), H22 IO_L7N_T1_17 (io), J17 IO_L3P_T0_DQS_17 (io), J18 IO_L1N_T0_17 (io), J19 IO_L4P_T0_17 (io), K18 IO_L1P_T0_17 (io), K19 IO_L6P_T0_17 (io), K20 IO_L6N_T0_VREF_17 (io), L17 IO_L5P_T0_17 (io), L18 IO_L5N_T0_17 (io)
part G pins: A11 IO_L17P_T2_18 (io), A12 IO_L17N_T2_18 (io), A13 IO_L22N_T3_18 (io), A15 IO_L24N_T3_18 (io), B12 IO_L15N_T2_DQS_18 (io), B13 IO_L22P_T3_18 (io), B14 IO_L24P_T3_18 (io), B15 IO_L23N_T3_18 (io), C11 IO_L18N_T2_18 (io), C12 IO_L15P_T2_DQS_18 (io), C14 IO_L21N_T3_DQS_18 (io), C15 IO_L23P_T3_18 (io), D11 IO_L18P_T2_18 (io), D12 IO_L13P_T2_MRCC_18 (io), D13 IO_L13N_T2_MRCC_18 (io), D14 IO_L21P_T3_DQS_18 (io), E11 IO_L16N_T2_18 (io), E13 IO_L14N_T2_SRCC_18 (io), E14 IO_L20P_T3_18 (io), E15 IO_L20N_T3_18 (io), E16 IO_L19N_T3_VREF_18 (io), F11 IO_L16P_T2_18 (io), F12 IO_L14P_T2_SRCC_18 (io), F13 IO_L12N_T1_MRCC_18 (io), F15 IO_L19P_T3_18 (io), F16 IO_25_18 (io), G12 IO_0_18 (io), G13 IO_L12P_T1_MRCC_18 (io), G14 IO_L11N_T1_SRCC_18 (io), G15 IO_L7N_T1_18 (io), H11 IO_L10P_T1_18 (io), H12 IO_L10N_T1_18 (io), H14 IO_L11P_T1_SRCC_18 (io), H15 IO_L7P_T1_18 (io), H16 IO_L9N_T1_DQS_18 (io), J11 IO_L8P_T1_18 (io), J12 IO_L8N_T1_18 (io), J13 IO_L4N_T0_18 (io), J14 IO_L5N_T0_18 (io), J16 IO_L9P_T1_DQS_18 (io), K11 IO_L6N_T0_VREF_18 (io), K13 IO_L4P_T0_18 (io), K14 IO_L5P_T0_18 (io), K15 IO_L2N_T0_18 (io), K16 IO_L1N_T0_18 (io), L11 IO_L6P_T0_18 (io), L12 IO_L3P_T0_DQS_18 (io), L13 IO_L3N_T0_DQS_18 (io), L15 IO_L2P_T0_18 (io), L16 IO_L1P_T0_18 (io)
part H pins: AA15 IO_L20P_T3_32 (io), AA16 IO_L23N_T3_32 (io), AA17 IO_L23P_T3_32 (io), AA18 IO_L16P_T2_32 (io), AB14 IO_25_VRP_32 (io), AB15 IO_L20N_T3_32 (io), AB17 IO_L18P_T2_32 (io), AB18 IO_L16N_T2_32 (io), AB19 IO_L17P_T2_32 (io), AC14 IO_L22P_T3_32 (io), AC15 IO_L21N_T3_DQS_32 (io), AC16 IO_L21P_T3_DQS_32 (io), AC17 IO_L18N_T2_32 (io), AC19 IO_L17N_T2_32 (io), AD14 IO_L22N_T3_32 (io), AD16 IO_L14N_T2_SRCC_32 (io), AD17 IO_L14P_T2_SRCC_32 (io), AD18 IO_L13P_T2_MRCC_32 (io), AD19 IO_L10P_T1_32 (io), AE14 IO_L19N_T3_VREF_32 (io), AE15 IO_L19P_T3_32 (io), AE16 IO_L6P_T0_32 (io), AE18 IO_L13N_T2_MRCC_32 (io), AE19 IO_L10N_T1_32 (io), AF15 IO_L4P_T0_32 (io), AF16 IO_L6N_T0_VREF_32 (io), AF17 IO_L12P_T1_MRCC_32 (io), AF18 IO_L11P_T1_SRCC_32 (io), AG14 IO_L4N_T0_32 (io), AG15 IO_L2P_T0_32 (io), AG17 IO_L12N_T1_MRCC_32 (io), AG18 IO_L11N_T1_SRCC_32 (io), AG19 IO_L8P_T1_32 (io), AH15 IO_L2N_T0_32 (io), AH16 IO_L3P_T0_DQS_32 (io), AH17 IO_L5P_T0_32 (io), AH19 IO_L8N_T1_32 (io), AJ16 IO_L3N_T0_DQS_32 (io), AJ17 IO_L5N_T0_32 (io), AJ18 IO_L9P_T1_DQS_32 (io), AJ19 IO_L7P_T1_32 (io), AK15 IO_L1N_T0_32 (io), AK16 IO_L1P_T0_32 (io), AK18 IO_L9N_T1_DQS_32 (io), AK19 IO_L7N_T1_32 (io), Y14 IO_0_VRN_32 (io), Y15 IO_L24N_T3_32 (io), Y16 IO_L24P_T3_32 (io), Y18 IO_L15N_T2_DQS_32 (io), Y19 IO_L15P_T2_DQS_32 (io)
part I pins: AA8 IO_L2P_T0_33 (io), AA10 IO_L5N_T0_33 (io), AA11 IO_L5P_T0_33 (io), AA12 IO_L1P_T0_33 (io), AA13 IO_L6P_T0_33 (io), AB8 IO_L2N_T0_33 (io), AB9 IO_L3P_T0_DQS_33 (io), AB10 IO_L7P_T1_33 (io), AB12 IO_L1N_T0_33 (io), AB13 IO_L6N_T0_VREF_33 (io), AC9 IO_L3N_T0_DQS_33 (io), AC10 IO_L7N_T1_33 (io), AC11 IO_L9N_T1_DQS_33 (io), AC12 IO_L9P_T1_DQS_33 (io), AD8 IO_L8P_T1_33 (io), AD9 IO_L10P_T1_33 (io), AD11 IO_L12N_T1_MRCC_33 (io), AD12 IO_L12P_T1_MRCC_33 (io), AD13 IO_25_VRP_33 (io), AE8 IO_L8N_T1_33 (io), AE9 IO_L10N_T1_33 (io), AE10 IO_L14P_T2_SRCC_33 (io), AE11 IO_L11P_T1_SRCC_33 (io), AE13 IO_L19P_T3_33 (io), AF10 IO_L14N_T2_SRCC_33 (io), AF11 IO_L11N_T1_SRCC_33 (io), AF12 IO_L23P_T3_33 (io), AF13 IO_L19N_T3_VREF_33 (io), AG9 IO_L16P_T2_33 (io), AG10 IO_L13P_T2_MRCC_33 (io), AG12 IO_L23N_T3_33 (io), AG13 IO_L24P_T3_33 (io), AH9 IO_L16N_T2_33 (io), AH10 IO_L13N_T2_MRCC_33 (io), AH11 IO_L18P_T2_33 (io), AH12 IO_L24N_T3_33 (io), AH14 IO_L21P_T3_DQS_33 (io), AJ9 IO_L15P_T2_DQS_33 (io), AJ11 IO_L18N_T2_33 (io), AJ12 IO_L22N_T3_33 (io), AJ13 IO_L22P_T3_33 (io), AJ14 IO_L21N_T3_DQS_33 (io), AK9 IO_L15N_T2_DQS_33 (io), AK10 IO_L17N_T2_33 (io), AK11 IO_L17P_T2_33 (io), AK13 IO_L20N_T3_33 (io), AK14 IO_L20P_T3_33 (io), Y10 IO_L4N_T0_33 (io), Y11 IO_L4P_T0_33 (io), Y13 IO_0_VRN_33 (io)
part J pins: AB7 IO_25_VRP_34 (io), AC1 IO_L2N_T0_34 (io), AC2 IO_L2P_T0_34 (io), AC4 IO_L4N_T0_34 (io), AC5 IO_L4P_T0_34 (io), AC6 IO_0_VRN_34 (io), AC7 IO_L6P_T0_34 (io), AD1 IO_L3N_T0_DQS_34 (io), AD2 IO_L3P_T0_DQS_34 (io), AD3 IO_L1N_T0_34 (io), AD4 IO_L1P_T0_34 (io), AD6 IO_L5P_T0_34 (io), AD7 IO_L6N_T0_VREF_34 (io), AE1 IO_L8P_T1_34 (io), AE3 IO_L10N_T1_34 (io), AE4 IO_L10P_T1_34 (io), AE5 IO_L11P_T1_SRCC_34 (io), AE6 IO_L5N_T0_34 (io), AF1 IO_L8N_T1_34 (io), AF2 IO_L7N_T1_34 (io), AF3 IO_L7P_T1_34 (io), AF5 IO_L11N_T1_SRCC_34 (io), AF6 IO_L12P_T1_MRCC_34 (io), AF7 IO_L20P_T3_34 (io), AF8 IO_L19P_T3_34 (io), AG2 IO_L15P_T2_DQS_34 (io), AG3 IO_L9N_T1_DQS_34 (io), AG4 IO_L9P_T1_DQS_34 (io), AG5 IO_L12N_T1_MRCC_34 (io), AG7 IO_L20N_T3_34 (io), AG8 IO_L19N_T3_VREF_34 (io), AH1 IO_L15N_T2_DQS_34 (io), AH2 IO_L16P_T2_34 (io), AH4 IO_L13P_T2_MRCC_34 (io), AH5 IO_L14N_T2_SRCC_34 (io), AH6 IO_L14P_T2_SRCC_34 (io), AH7 IO_L21P_T3_DQS_34 (io), AJ1 IO_L17P_T2_34 (io), AJ2 IO_L16N_T2_34 (io), AJ3 IO_L18P_T2_34 (io), AJ4 IO_L13N_T2_MRCC_34 (io), AJ6 IO_L22P_T3_34 (io), AJ7 IO_L21N_T3_DQS_34 (io), AJ8 IO_L23P_T3_34 (io), AK1 IO_L17N_T2_34 (io), AK3 IO_L18N_T2_34 (io), AK4 IO_L24N_T3_34 (io), AK5 IO_L24P_T3_34 (io), AK6 IO_L22N_T3_34 (io), AK8 IO_L23N_T3_34 (io)
part K pins: A10 INIT_B_0 (io), AB1 M2_0 (in), AB2 M1_0 (in), AB5 M0_0 (in), B10 CCLK_0 (io), E10 TCK_0 (in), F10 TMS_0 (in), G10 TDO_0 (out), H10 TDI_0 (in), K10 PROGRAM_B_0 (in), L10 CFGBVS_0 (in), M10 DONE_0 (io), R14 VREFN_0 (in), R15 VP_0 (in), T14 VN_0 (in), T15 VREFP_0 (in), U14 DXN_0 (in), U15 DXP_0 (in)
part L pins: A3 MGTXTXN3_118 (out), A4 MGTXTXP3_118 (out), A7 MGTXRXN3_118 (in), A8 MGTXRXP3_118 (in), AA3 MGTXRXN0_115 (in), AA4 MGTXRXP0_115 (in), B1 MGTXTXN2_118 (out), B2 MGTXTXP2_118 (out), B5 MGTXRXN2_118 (in), B6 MGTXRXP2_118 (in), C3 MGTXTXN1_118 (out), C4 MGTXTXP1_118 (out), C7 MGTREFCLK0N_118 (in), C8 MGTREFCLK0P_118 (in), D1 MGTXTXN0_118 (out), D2 MGTXTXP0_118 (out), D5 MGTXRXN1_118 (in), D6 MGTXRXP1_118 (in), E3 MGTXRXN0_118 (in), E4 MGTXRXP0_118 (in), E7 MGTREFCLK1N_118 (in), E8 MGTREFCLK1P_118 (in), F1 MGTXTXN3_117 (out), F2 MGTXTXP3_117 (out), F5 MGTXRXN3_117 (in), F6 MGTXRXP3_117 (in), G3 MGTXRXN2_117 (in), G4 MGTXRXP2_117 (in), G7 MGTREFCLK0N_117 (in), G8 MGTREFCLK0P_117 (in), H1 MGTXTXN2_117 (out), H2 MGTXTXP2_117 (out), H5 MGTXRXN1_117 (in), H6 MGTXRXP1_117 (in), J3 MGTXTXN1_117 (out), J4 MGTXTXP1_117 (in), J7 MGTREFCLK1N_117 (in), J8 MGTREFCLK1P_117 (in), K1 MGTXTXN0_117 (out), K2 MGTXTXP0_117 (out), K5 MGTXRXN0_117 (in), K6 MGTXRXP0_117 (in), L3 MGTXTXN3_116 (out), L4 MGTXTXP3_116 (out), L7 MGTREFCLK0N_116 (in), L8 MGTREFCLK0P_116 (in), M1 MGTXTXN2_116 (out), M2 MGTXTXP2_116 (out), M5 MGTXRXN3_116 (in), M6 MGTXRXP3_116 (in), N3 MGTXTXN1_116 (out), N4 MGTXTXP1_116 (out), N7 MGTREFCLK1N_116 (in), N8 MGTREFCLK1P_116 (in), P1 MGTXTXN0_116 (out), P2 MGTXTXP0_116 (out), P5 MGTXRXN2_116 (in), P6 MGTXRXP2_116 (in), R3 MGTXRXN1_116 (in), R4 MGTXRXP1_116 (in), R7 MGTREFCLK0N_115 (in), R8 MGTREFCLK0P_115 (in), T1 MGTXTXN3_115 (out), T2 MGTXTXP3_115 (out), T5 MGTXRXN0_116 (in), T6 MGTXRXP0_116 (in), U3 MGTXTXN2_115 (out), U4 MGTXTXP2_115 (out), U7 MGTREFCLK1N_115 (in), U8 MGTREFCLK1P_115 (in), V1 MGTXTXN1_115 (out), V2 MGTXTXP1_115 (out), V5 MGTXRXN3_115 (in), V6 MGTXRXP3_115 (in), W3 MGTXRXN2_115 (in), W4 MGTXRXP2_115 (in), W7 MGTAVTTRCAL_115, W8 MGTRREF_115 (in), Y1 MGTXTXN0_115 (out), Y2 MGTXTXP0_115 (out), Y5 MGTXRXN1_115 (in), Y6 MGTXRXP1_115 (in)
part M pins: B3 MGTAVTT (power), B7 MGTAVCC (power), C5 MGTAVTT (power), D3 MGTAVTT (power), D7 MGTAVCC (power), E5 MGTAVTT (power), F3 MGTAVTT (power), F7 MGTAVCC (power), G5 MGTAVTT (power), H3 MGTAVTT (power), H7 MGTAVCC (power), J5 MGTAVTT (power), K3 MGTAVTT (power), K7 MGTAVCC (power), L5 MGTAVTT (power), M3 MGTAVTT (power), M7 MGTAVCC (power), N5 MGTAVTT (power), P3 MGTAVTT (power), P7 MGTAVCC (power), R5 MGTAVTT (power), T3 MGTAVTT (power), T7 MGTVCCAUX (power), U5 MGTAVTT (power), V3 MGTAVTT (power), V7 MGTVCCAUX (power), W5 MGTAVTT (power)
part N pins: A19 VCCO_17 (power), A29 VCCO_16 (power), AA9 VCCO_33 (power), AA19 VCCO_32 (power), AA29 VCCO_13 (power), AB6 VCCO_0 (power), AB16 VCCO_32 (power), AB26 VCCO_13 (power), AC3 VCCO_34 (power), AC13 VCCO_33 (power), AC23 VCCO_12 (power), AD10 VCCO_33 (power), AD20 VCCO_12 (power), AD30 VCCO_13 (power), AE7 VCCO_34 (power), AE17 VCCO_32 (power), AE27 VCCO_13 (power), AF4 VCCO_34 (power), AF14 VCCO_32 (power), AF24 VCCO_12 (power), AG1 VCCO_34 (power), AG11 VCCO_33 (power), AG21 VCCO_12 (power), AH8 VCCO_34 (power), AH18 VCCO_32 (power), AH28 VCCO_13 (power), AJ5 VCCO_34 (power), AJ15 VCCO_32 (power), AJ25 VCCO_13 (power), AK2 VCCO_34 (power), AK12 VCCO_33 (power), AK22 VCCO_12 (power), B16 VCCO_17 (power), B26 VCCO_16 (power), C13 VCCO_18 (power), C23 VCCO_16 (power), D10 VCCO_18 (power), D20 VCCO_17 (power), D30 VCCO_16 (power), E17 VCCO_17 (power), E27 VCCO_16 (power), F14 VCCO_18 (power), F24 VCCO_16 (power), G11 VCCO_18 (power), G21 VCCO_17 (power), H18 VCCO_17 (power), H28 VCCO_16 (power), J15 VCCO_18 (power), J25 VCCO_15 (power), K12 VCCO_18 (power), K22 VCCO_15 (power), L19 VCCO_17 (power), L29 VCCO_15 (power), M26 VCCO_15 (power), N23 VCCO_15 (power), P20 VCCO_15 (power), P30 VCCO_14 (power), R27 VCCO_14 (power), T9 VCCO_0 (power), T24 VCCO_14 (power), U21 VCCO_14 (power), V28 VCCO_14 (power), W25 VCCO_14 (power), Y12 VCCO_33 (power), Y22 VCCO_12 (power)
part O pins: C10 VCCBATT_0 (power), M11 VCCINT (power), M13 VCCINT (power), M15 VCCINT (power), M17 VCCINT (power), N10 VCCINT (power), N12 VCCINT (power), N14 VCCINT (power), N16 VCCBRAM (power), N18 VCCINT (power), P11 VCCINT (power), P13 VCCAUX (power), P15 VCCADC_0 (power), P17 VCCINT (power), R10 VCCINT (power), R12 VCCINT (power), R16 VCCBRAM (power), R18 VCCINT (power), T11 VCCINT (power), T13 VCCAUX (power), T17 VCCINT (power), U10 VCCINT (power), U12 VCCINT (power), U16 VCCBRAM (power), U18 VCCINT (power), V11 VCCAUX_IO_G0 (power), V13 VCCAUX (power), V15 VCCAUX (power), V17 VCCINT (power), W10 VCCAUX_IO_G0 (power), W12 VCCAUX_IO_G0 (power), W14 VCCAUX (power), W16 VCCBRAM (power), W18 VCCINT (power)
part P pins: A1 GND (power), A2 GND (power), A5 GND (power), A6 GND (power), A9 GND (power), A14 GND (power), A24 GND (power), B4 GND (power), B8 GND (power), B9 GND (power), B11 GND (power), B21 GND (power), C1 GND (power), C2 GND (power), C6 GND (power), C9 GND (power), C18 GND (power), C28 GND (power), D4 GND (power), D8 GND (power), D9 GND (power), D15 GND (power), D25 GND (power), E1 GND (power), E2 GND (power), E6 GND (power), E9 GND (power), E12 GND (power), E22 GND (power), F4 GND (power), F8 GND (power), F9 GND (power), F19 GND (power), F29 GND (power), G1 GND (power), G2 GND (power), G6 GND (power), G9 GND (power), G16 GND (power), G26 GND (power), H4 GND (power), H8 GND (power), H9 GND (power), H13 GND (power), H23 GND (power), J1 GND (power), J2 GND (power), J6 GND (power), J9 GND (power), J10 GND (power), J20 GND (power), J30 GND (power), K4 GND (power), K8 GND (power), K9 GND (power), K17 GND (power), K27 GND (power), L1 GND (power), L2 GND (power), L6 GND (power), L9 GND (power), L14 GND (power), L24 GND (power), M4 GND (power), M8 GND (power), M9 GND (power), M12 GND (power), M14 GND (power), M16 GND (power), M18 GND (power), M21 GND (power), N1 GND (power), N2 GND (power), N6 GND (power), N9 GND (power), N11 GND (power), N13 GND (power), N15 GND (power), N17 GND (power), N28 GND (power)
part Q pins: AA1 GND (power), AA2 GND (power), AA5 GND (power), AA6 GND (power), AA7 GND (power), AA14 GND (power), AA24 GND (power), AB3 GND (power), AB4 GND (power), AB11 GND (power), AB21 GND (power), AC8 GND (power), AC18 GND (power), AC28 GND (power), AD5 GND (power), AD15 GND (power), AD25 GND (power), AE2 GND (power), AE12 GND (power), AE22 GND (power), AF9 GND (power), AF19 GND (power), AF29 GND (power), AG6 GND (power), AG16 GND (power), AG26 GND (power), AH3 GND (power), AH13 GND (power), AH23 GND (power), AJ10 GND (power), AJ20 GND (power), AJ30 GND (power), AK7 GND (power), AK17 GND (power), AK27 GND (power), P4 GND (power), P8 GND (power), P9 GND (power), P10 GND (power), P12 GND (power), P14 GNDADC_0 (power), P16 GND (power), P18 GND (power), P25 GND (power), R1 GND (power), R2 GND (power), R6 GND (power), R9 GND (power), R11 GND (power), R13 GND (power), R17 GND (power), R22 GND (power), T4 GND (power), T8 GND (power), T10 GND (power), T12 GND (power), T16 GND (power), T18 GND (power), T19 GND (power), T29 GND (power), U1 GND (power), U2 GND (power), U6 GND (power), U9 GND (power), U11 GND (power), U13 GND (power), U17 GND (power), U26 GND (power), V4 GND (power), V8 GND (power), V9 GND (power), V10 GND (power), V12 GND (power), V14 GND (power), V16 GND (power), V18 GND (power), V23 GND (power), W1 GND (power), W2 GND (power), W6 GND (power), W9 GND (power), W11 GND (power), W13 GND (power), W15 GND (power), W17 GND (power), W20 GND (power), W30 GND (power), Y3 GND (power), Y4 GND (power), Y7 GND (power), Y8 GND (power), Y9 GND (power), Y17 GND (power), Y27 GND (power)
part A text: BANK 12
part B text: BANK 13
part C text: BANK 14
part D text: BANK 15
part E text: BANK 16
part F text: BANK 17
part G text: BANK 18
part H text: BANK 32
part I text: BANK 33
part J text: BANK 34

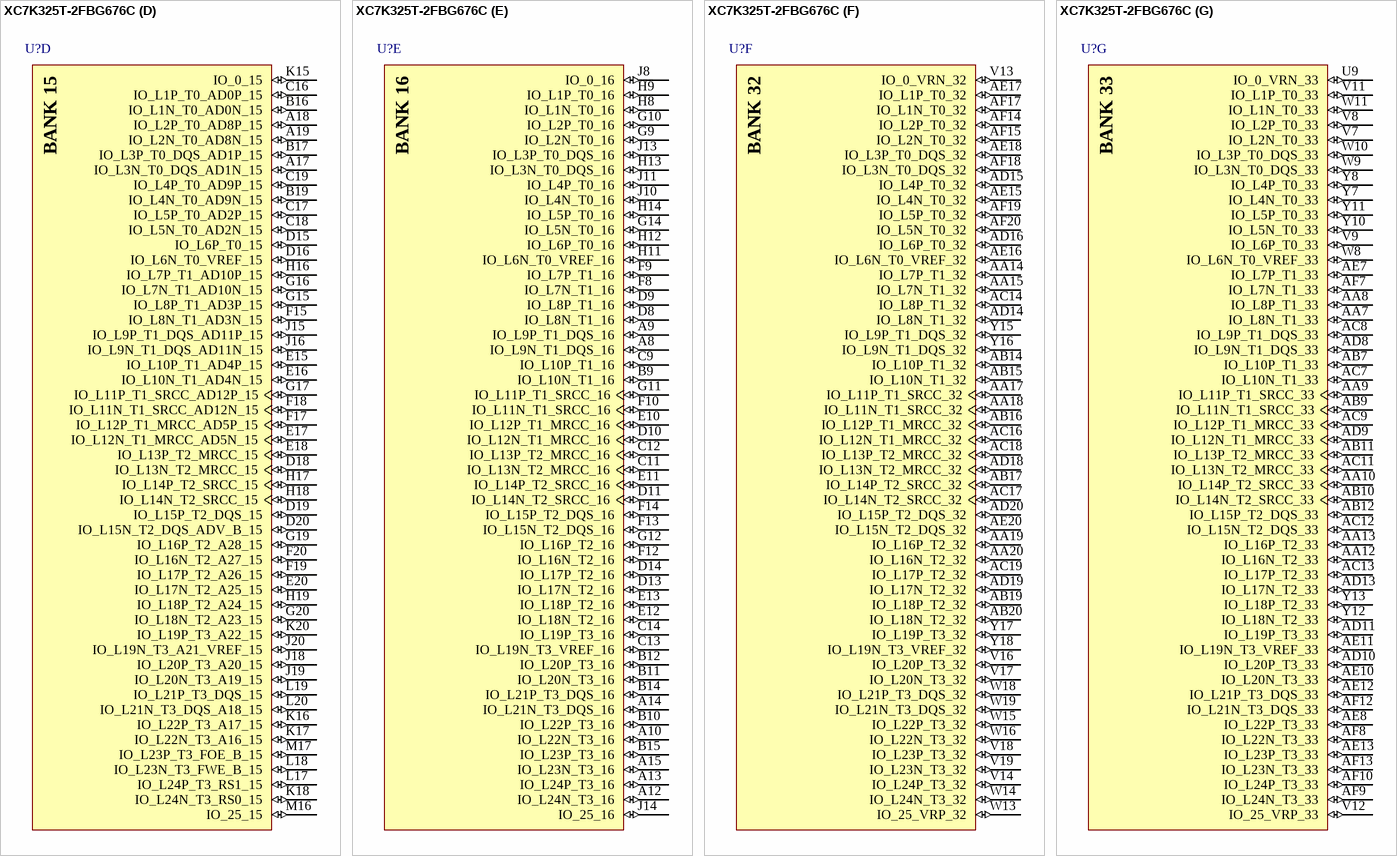
[diagram p88: symbol XC7K325T-2FBG676C]

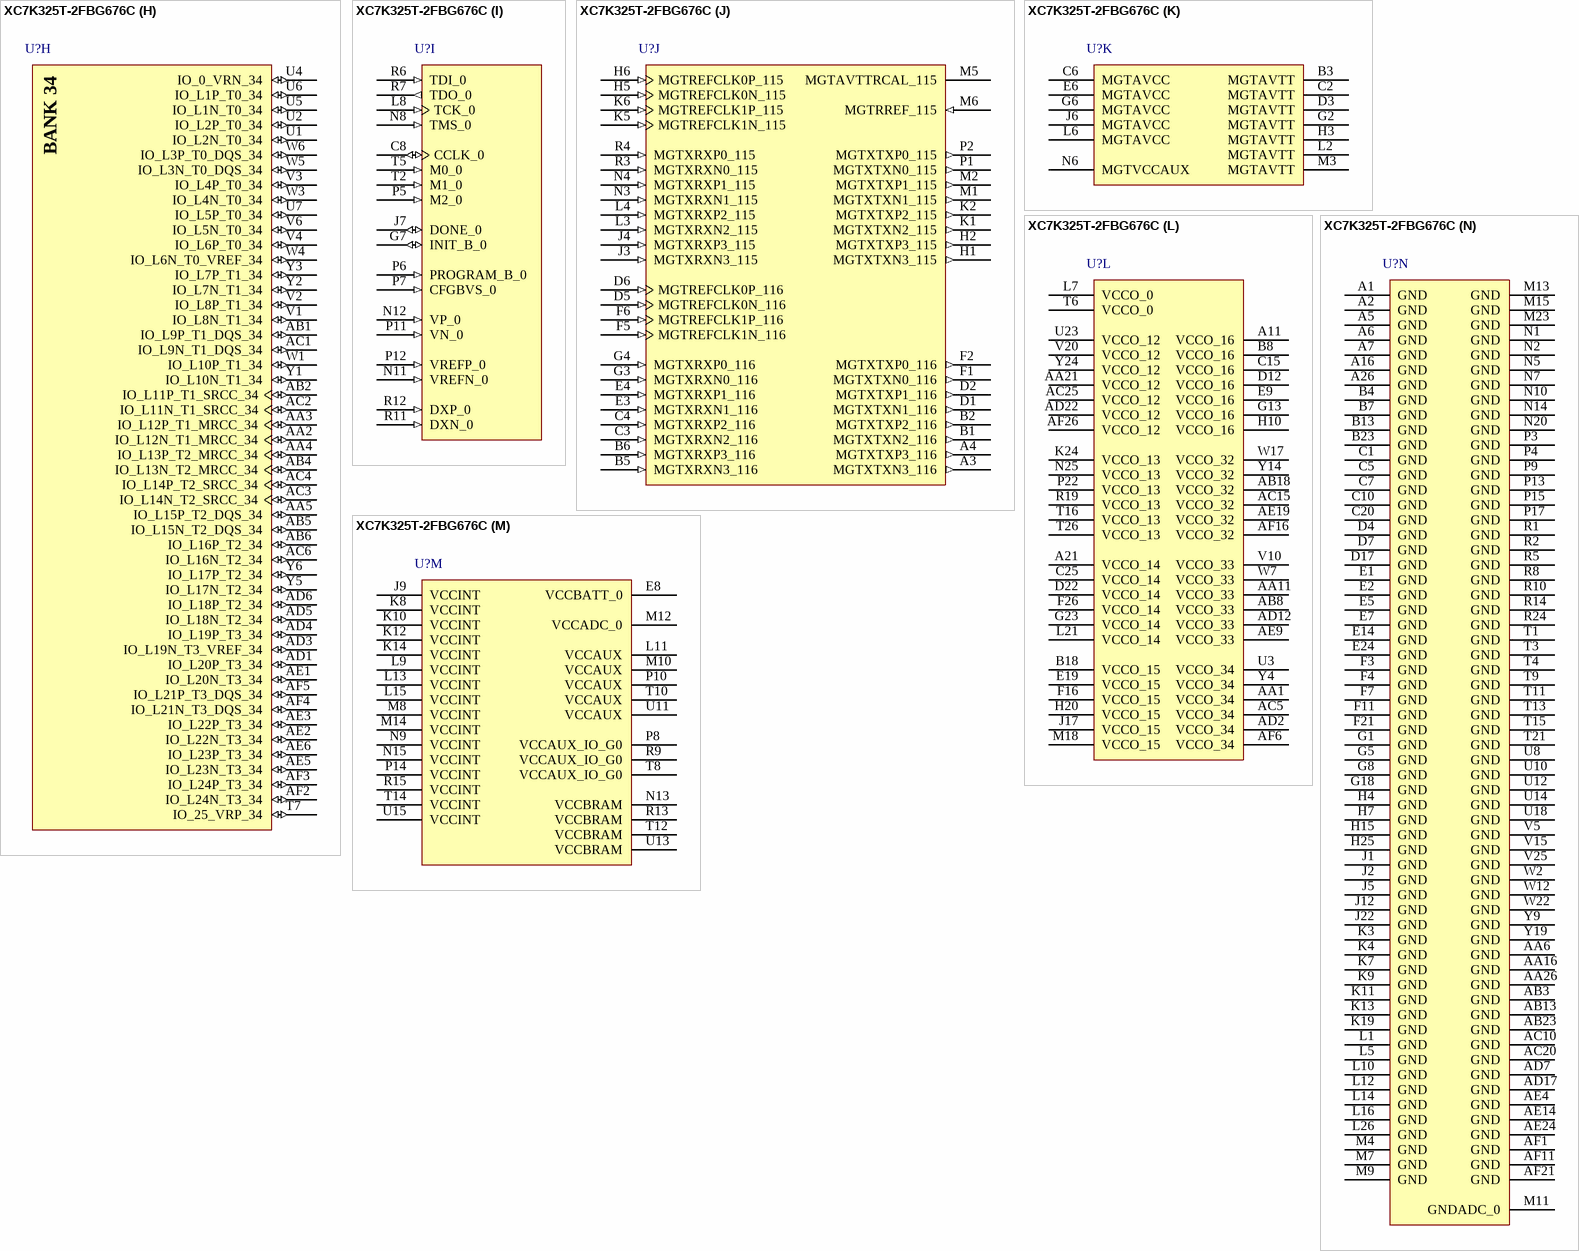
[diagram p89: symbol XC7K325T-2FBG676C]